# Altium schematic symbol library ESKDLib.SchLib: 109 symbols (part 1 of 2)
Pins are listed as number, name and electrical type; pins without a type are passive.

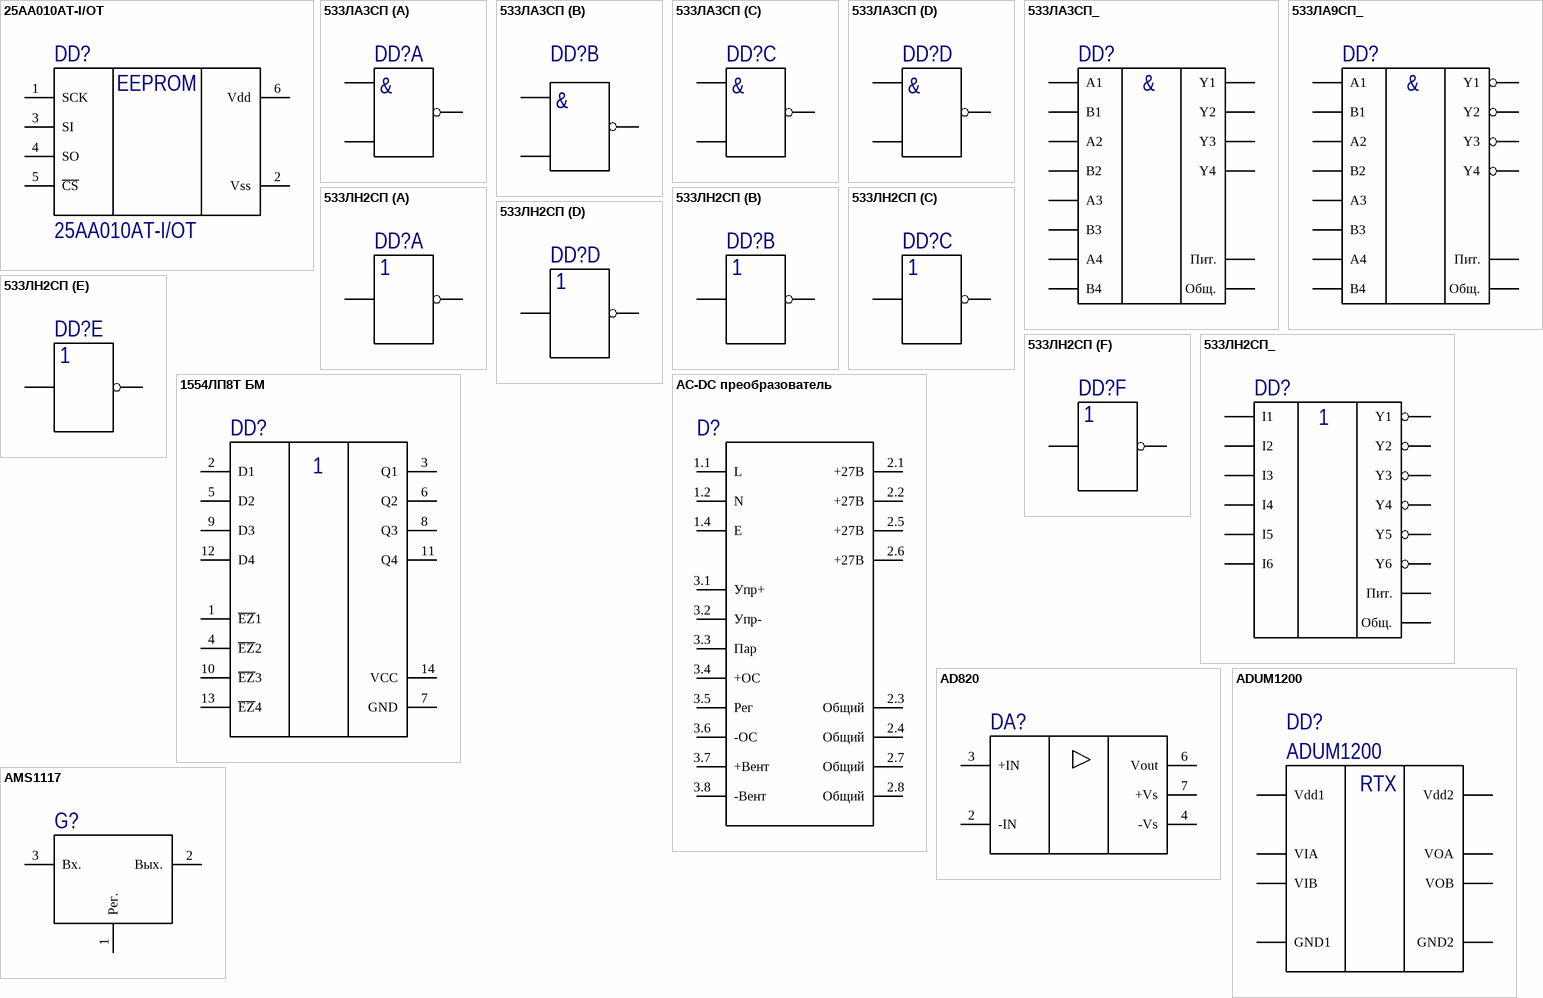
[diagram p0: symbols 25AA010AT-I/OT to AMS1117]

## 25AA010AT-I/OT
designator DD?
операционный усилитель; ValueManufacturerPartNumber: * 25AA010AT-I/OT *; ComponentKind: Standart; ComponentName: 25AA010AT-I/OT; ComponentType: *; Designator: *; Footprint: *; LibraryReference: *; Manufacturer: *; Package: *; PartNumber: *; TechSpec: *; Tolerance: *; Value: *; Voltage: *; Power: *
footprint SOT23-6_H
footprint SOT23-6_A
pins: 1 SCK, 2 Vss, 3 SI, 4 SO, 5 ~{CS}, 6 Vdd
text: EEPROM

## 533ЛА3СП
designator DD?  (value not drawn)
Четыре логических элемента  «2И-НЕ»; ComponentKind: Standart; ComponentName: *; ComponentType: *; Designator: *; Footprint: *; LibraryReference: *; Manufacturer: *; Package: *; PartNumber: *; TechSpec: *; Tolerance: *; Value: *; Voltage: *; ValueManufacturerPartNumber: =Designator+’-’+Power+’-‘+Value+’ ‘+Tolerance+’ ‘+TechSpec; Power: *
part A pins: 1 A1, 2 B1, 3 Y1, 7 Общ. hidden to Общ., 14 Пит. hidden to Пит.
part B pins: 4 A2, 5 B2, 6 Y2
part C pins: 8 Y3, 9 A3, 10 B3
part D pins: 11 Y4, 12 A4, 13 B4
part A text: &
part B text: &
part C text: &
part D text: &

## 533ЛА3СП_
designator DD?  (value not drawn)
Четыре логических элемента  «2И-НЕ»; ComponentName: 533ЛА3СП; TechSpec: бК0.347.141-01ТУ/03; ComponentKind: Standart; ComponentType: Микросхема; Designator: *; Footprint: *; LibraryReference: *; Manufacturer: *; Package: *; PartNumber: *; Tolerance: *; Value: *; Voltage: *; ValueManufacturerPartNumber: =ComponentType+’ ’+ComponentName+’ ‘+TechSpec; Power: *
footprint 401.14-5
pins: 1 A1, 2 B1, 3 Y1, 4 A2, 5 B2, 6 Y2, 7 Общ., 8 Y3, 9 A3, 10 B3, 11 Y4, 12 A4, 13 B4, 14 Пит.
text: &

## 533ЛА9СП_
designator DD?  (value not drawn)
Четыре логических элемента  «2И-НЕ» с открытым коллектором; ComponentName: 533ЛА9СП; TechSpec: бК0.347.141-01ТУ/03; ComponentKind: Standart; ComponentType: *; Designator: *; Footprint: *; LibraryReference: *; Manufacturer: *; Package: *; PartNumber: *; Tolerance: *; Value: *; Voltage: *; ValueManufacturerPartNumber: =ComponentType+’ ’+ComponentName+’ ‘+TechSpec; Power: *
pins: 1 A1, 2 B1, 3 Y1, 4 A2, 5 B2, 6 Y2, 7 Общ., 8 Y3, 9 A3, 10 B3, 11 Y4, 12 A4, 13 B4, 14 Пит.
text: &

## 533ЛН2СП
designator DD?  (value not drawn)
Шесть логических элементов «НЕ» с открытым коллекторным выходом; Component Kind: Standart; Component Name: *; Component Type: *; Designator: *; Footprint: *; Library Reference: *; Manufacturer: *; Package: *; Part Number: *; TechSpec: *; Tolerance: *; Value: *; Voltage: *; ValueManufacturerPartNumber: =Designator+’-’+Power+’-‘+Value+’ ‘+Tolerance+’ ‘+TechSpec; Power: *
part A pins: 1 I1, 2 Y1, 7 Общ. hidden to Общ., 14 Пит. hidden to Пит.
part B pins: 3 I2, 4 Y2
part C pins: 5 I3, 6 Y3
part D pins: 8 Y4, 9 I4
part E pins: 10 Y5, 11 I5
part F pins: 12 Y6, 13 I6

## 533ЛН2СП_
designator DD?  (value not drawn)
Шесть логических элементов «НЕ» с открытым коллекторным выходом; Component Name: 533ЛН2СП; TechSpec: бК0.347.141-01ТУ/03; Component Kind: Standart; Component Type: *; Designator: *; Footprint: *; Library Reference: *; Manufacturer: *; Package: *; Part Number: *; Tolerance: *; Value: *; Voltage: *; ValueManufacturerPartNumber: =ComponentType+’ ’+ComponentName+’ ‘+TechSpec; Power: *
footprint 401.14-5
pins: 1 I1, 2 Y1, 3 I2, 4 Y2, 5 I3, 6 Y3, 7 Общ., 8 Y4, 9 I4, 10 Y5, 11 I5, 12 Y6, 13 I6, 14 Пит.

## 1554ЛП8Т БМ
designator DD?  (value not drawn)
Четыре  буферных  элемента  с  тремя  состояниями  на  выходе; Component Name: 1554ЛП8Т БМ; TechSpec: АЕЯР.431200.182-09ТУ; Component Kind: Standart; Component Type: *; Designator: *; Footprint: *; Library Reference: *; Manufacturer: *; Package: *; Part Number: *; Tolerance: *; Value: *; Voltage: *; ValueManufacturerPartNumber: =ComponentType+’ ’+ComponentName+’ ‘+TechSpec; Power: *
footprint 401.14-5
footprint DIP14
footprint SO-14
pins: 1 ~{EZ}1, 2 D1, 3 Q1, 4 ~{EZ}2, 5 D2, 6 Q2, 7 GND, 8 Q3, 9 D3, 10 ~{EZ}3, 11 Q4, 12 D4, 13 ~{EZ}4, 14 VCC

## AC-DC преобразователь
designator D?  (value not drawn)
AC-DC преобразователь; Power: 800Вт; Component Kind: Standart; Component Name: *; Component Type: *; Designator: *; Footprint: *; Library Reference: *; Manufacturer: *; Package: *; Part Number: *; TechSpec: *; Tolerance: *; Value: *; Voltage: *; ValueManufacturerPartNumber: =Designator+’-’+Power+’-‘+Value+’ ‘+Tolerance+’ ‘+TechSpec
pins: 1.1 L, 1.2 N, 1.4 E, 2.1 +27В, 2.2 +27В, 2.3 Общий, 2.4 Общий, 2.5 +27В, 2.6 +27В, 2.7 Общий, 2.8 Общий, 3.1 Упр+, 3.2 Упр-, 3.3 Пар, 3.4 +ОС, 3.5 Рег, 3.6 -ОС, 3.7 +Вент, 3.8 -Вент

## AD820
designator DA?  (value not drawn)
операционный усилитель; ComponentKind: Standart; ComponentName: *; ComponentType: *; Designator: *; Footprint: *; LibraryReference: *; Manufacturer: *; Package: *; PartNumber: *; TechSpec: *; Tolerance: *; Value: *; Voltage: *; ValueManufacturerPartNumber: =Designator+’-’+Power+’-‘+Value+’ ‘+Tolerance+’ ‘+TechSpec; Power: *
pins: 2 -IN, 3 +IN, 4 -Vs, 6 Vout, 7 +Vs

## ADUM1200
designator DD?
Цифровой изолятор; ComponentKind: Standart; ComponentName: ADUM1200; ComponentType: *; Designator: *; Footprint: *; LibraryReference: *; Manufacturer: *; Package: *; PartNumber: *; TechSpec: *; Tolerance: *; Value: *; Voltage: *; ValueManufacturerPartNumber: =Designator+’-’+Power+’-‘+Value+’ ‘+Tolerance+’ ‘+TechSpec; Power: *
footprint SO8_A
footprint SO8_H
pins: 1 Vdd1, 2 VIA, 3 VIB, 4 GND1, 5 GND2, 6 VOB, 7 VOA, 8 Vdd2
text: RTX

## AMS1117
designator G?
Линейный стабилизатор напряжения; ValueManufacturerPartNumber: * * *; ComponentKind: Standart; ComponentName: *; ComponentType: *; Designator: *; Footprint: *; LibraryReference: *; Manufacturer: *; Package: *; PartNumber: *; TechSpec: *; Tolerance: *; Value: *; Voltage: *; Power: *
footprint SOT-223
pins: 1 Рег., 2 Вых., 3 Вх.

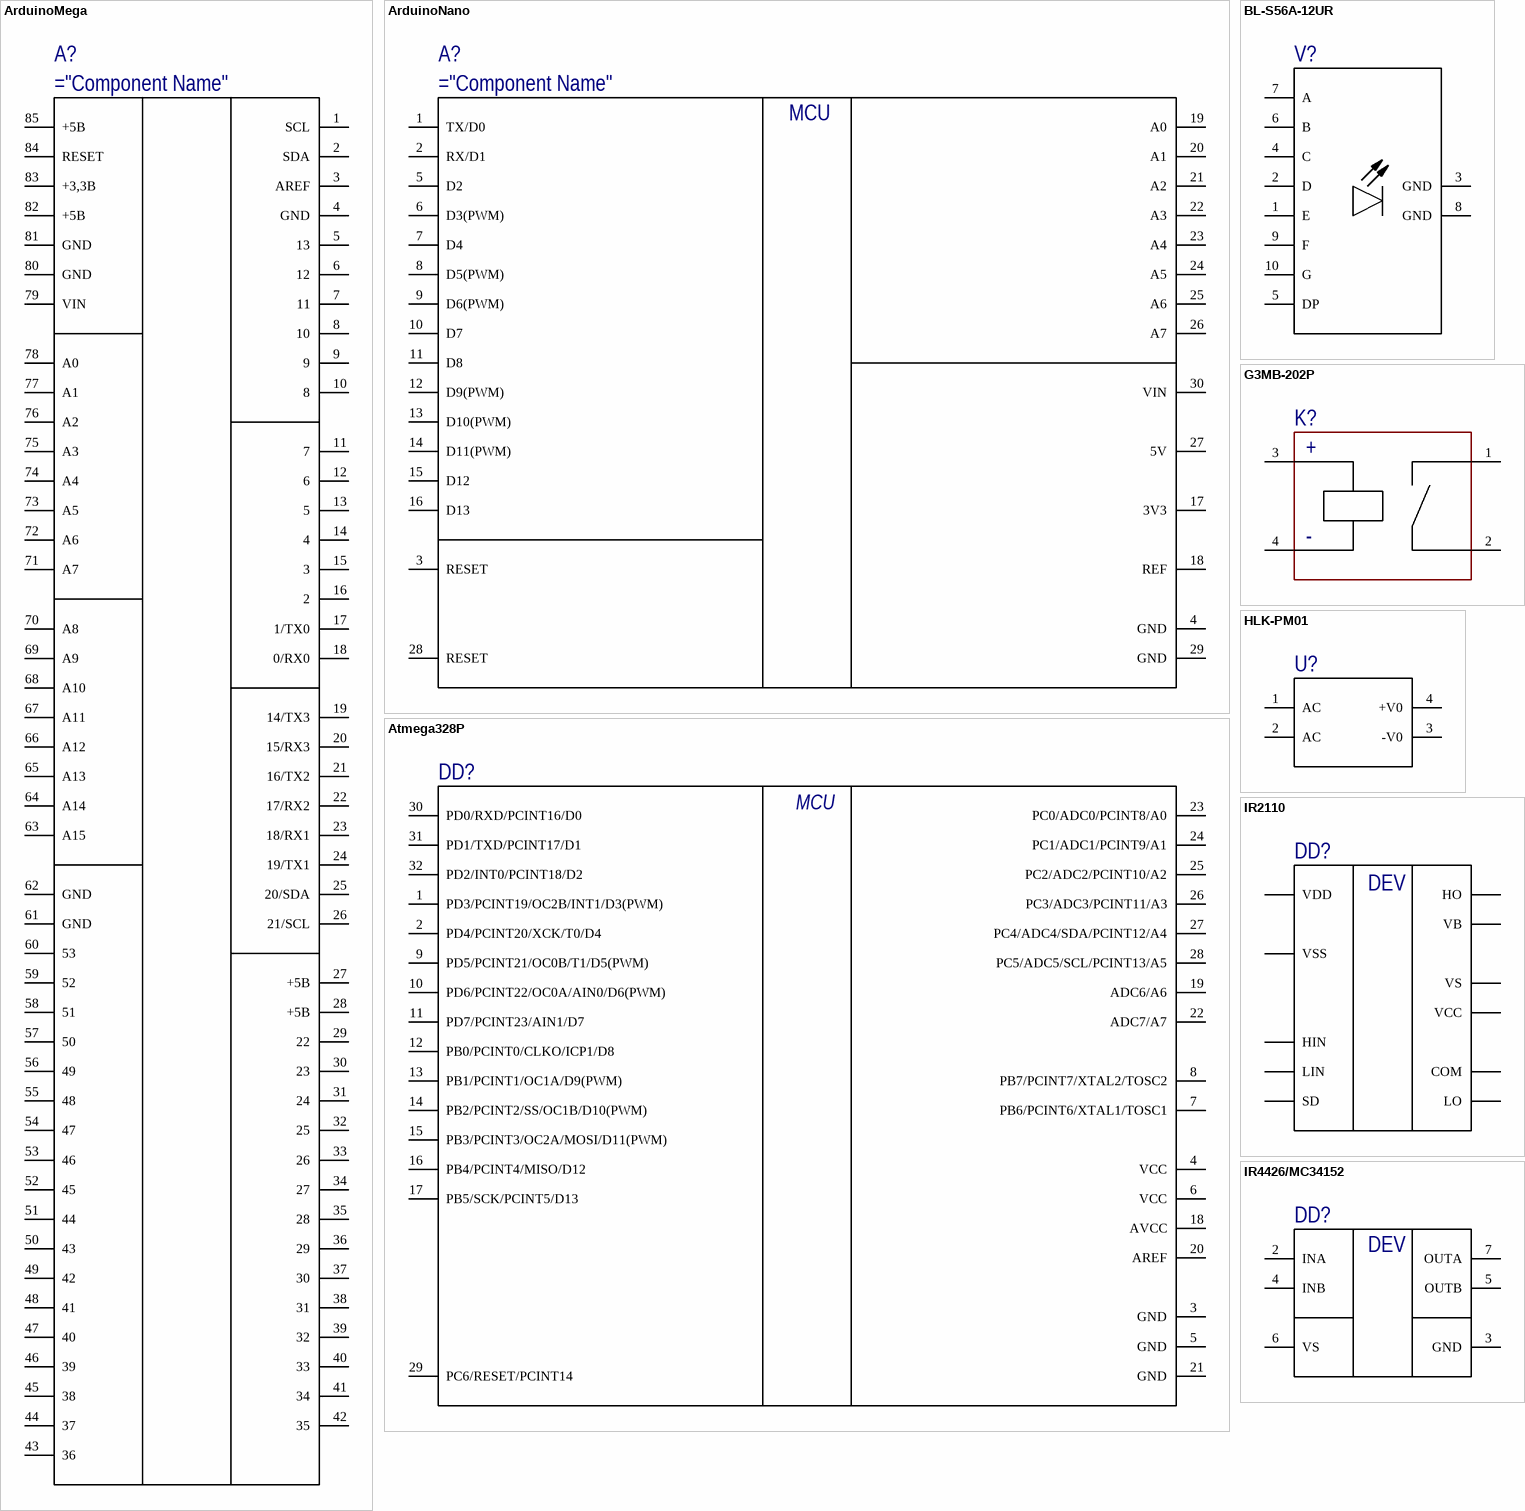
[diagram p1: symbols ArduinoMega to IR4426/MC34152]

## ArduinoMega
designator A?
отладочная плата ArduinoMega; ComponentKind: Standart; ComponentName: ArduinoMega; ComponentType: Отладочная плата; Designator: *; Footprint: *; LibraryReference: *; Manufacturer: *; Package: *; PartNumber: *; Tolerance: *; Value: *; Voltage: *; ValueManufacturerPartNumber: Отладочная плата ArduinoMega; Power: *
footprint ArduinoMegaBack
footprint ArduinoMegaFace
pins: 1 SCL, 2 SDA, 3 AREF, 4 GND, 5 13, 6 12, 7 11, 8 10, 9, 10 8, 11 7, 12 6, 13 5, 14 4, 15 3, 16 2, 17 1/TX0, 18 0/RX0, 19 14/TX3, 20 15/RX3, 21 16/TX2, 22 17/RX2, 23 18/RX1, 24 19/TX1, 25 20/SDA, 26 21/SCL, 27 +5В, 28 +5В, 29 22, 30 23, 31 24, 32 25, 33 26, 34 27, 35 28, 36 29, 37 30, 38 31, 39 32, 40 33, 41 34, 42 35, 43 36, 44 37, 45 38, 46 39, 47 40, 48 41, 49 42, 50 43, 51 44, 52 45, 53 46, 54 47, 55 48, 56 49, 57 50, 58 51, 59 52, 60 53, 61 GND, 62 GND, 63 A15, 64 A14, 65 A13, 66 A12, 67 A11, 68 A10, 69 A9, 70 A8, 71 A7, 72 A6, 73 A5, 74 A4, 75 A3, 76 A2, 77 A1, 78 A0, 79 VIN, 80 GND, 81 GND, 82 +5В, 83 +3,3В, 84 RESET, 85 +5В

## ArduinoNano
designator A?
отладочная плата ArduinoNano; ComponentKind: Standart; ComponentName: ArduinoNano; ComponentType: Отладочная плата; Designator: *; Footprint: *; LibraryReference: *; Manufacturer: *; Package: *; PartNumber: *; Tolerance: *; Value: *; Voltage: *; ValueManufacturerPartNumber: Отладочная плата ArduinoNano; Power: *
footprint ARDUINONANO
pins: 1 TX/D0, 2 RX/D1, 3 RESET, 4 GND, 5 D2, 6 D3(PWM), 7 D4, 8 D5(PWM), 9 D6(PWM), 10 D7, 11 D8, 12 D9(PWM), 13 D10(PWM), 14 D11(PWM), 15 D12, 16 D13, 17 3V3, 18 REF, 19 A0, 20 A1, 21 A2, 22 A3, 23 A4, 24 A5, 25 A6, 26 A7, 27 5V, 28 RESET, 29 GND, 30 VIN
text: MCU

## Atmega328P
designator DD?  (value not drawn)
микроконтроллер; ComponentKind: Standart; ComponentName: Atmega328P; ComponentType: микроконтроллер; Designator: *; Footprint: *; LibraryReference: *; Manufacturer: *; Package: *; PartNumber: *; Tolerance: *; Value: *; Voltage: *; ValueManufacturerPartNumber: =ComponentType+’ ’+ComponentName+’ ‘+TechSpec; Power: *
footprint TQFP32
pins: 1 PD3/PCINT19/OC2B/INT1/D3(PWM), 2 PD4/PCINT20/XCK/T0/D4, 3 GND, 4 VCC, 5 GND, 6 VCC, 7 PB6/PCINT6/XTAL1/TOSC1, 8 PB7/PCINT7/XTAL2/TOSC2, 9 PD5/PCINT21/OC0B/T1/D5(PWM), 10 PD6/PCINT22/OC0A/AIN0/D6(PWM), 11 PD7/PCINT23/AIN1/D7, 12 PB0/PCINT0/CLKO/ICP1/D8, 13 PB1/PCINT1/OC1A/D9(PWM), 14 PB2/PCINT2/SS/OC1B/D10(PWM), 15 PB3/PCINT3/OC2A/MOSI/D11(PWM), 16 PB4/PCINT4/MISO/D12, 17 PB5/SCK/PCINT5/D13, 18 AVCC, 19 ADC6/A6, 20 AREF, 21 GND, 22 ADC7/A7, 23 PC0/ADC0/PCINT8/A0, 24 PC1/ADC1/PCINT9/A1, 25 PC2/ADC2/PCINT10/A2, 26 PC3/ADC3/PCINT11/A3, 27 PC4/ADC4/SDA/PCINT12/A4, 28 PC5/ADC5/SCL/PCINT13/A5, 29 PC6/RESET/PCINT14, 30 PD0/RXD/PCINT16/D0, 31 PD1/TXD/PCINT17/D1, 32 PD2/INT0/PCINT18/D2
text: MCU

## BL-S56A-12UR
designator V?  (value not drawn)
Семисегментный индикатор; Component Kind: Standart; Component Name: *; Component Type: *; Designator: *; Footprint: *; Library Reference: *; Manufacturer: *; Package: *; Part Number: *; TechSpec: *; Tolerance: *; Value: *; Voltage: *; ValueManufacturerPartNumber: =Designator+’-’+Power+’-‘+Value+’ ‘+Tolerance+’ ‘+TechSpec; Power: *
footprint 7seg
pins: 1 E, 2 D, 3 GND, 4 C, 5 DP, 6 B, 7 A, 8 GND, 9 F, 10 G

## G3MB-202P
designator K?
G3MB-202P; ValueManufacturerPartNumber: Реле; ComponentKind: Standart; ComponentType: Реле; Designator: *; Footprint: *; Library Reference: *; Manufacturer: *; Package: *; Part Number: *; Tolerance: *; Value: *; Voltage: *
footprint G3MB-202P_OMRON
pins: 1, 2, 3 3+, 4 4-
text: +; -

## HLK-PM01
designator U?
AC-DC преобразователь; ValueManufacturerPartNumber: Модуль питания HLK-PM01; ComponentName: HLK-PM01; Power: 3Вт; ComponentKind: Standart; ComponentType: Модуль питания; Designator: *; Footprint: *; Library Reference: *; Manufacturer: *; Package: *; Part Number: *; Tolerance: *; Value: *; Voltage: *
pins: 1 AC, 2 AC, 3 -V0, 4 +V0

## IR2110
designator DD?  (value not drawn)
драйвер IGBT и MOSFET транзисторов; Component Kind: Standart; Component Name: *; Component Type: *; Designator: *; Footprint: *; Library Reference: *; Manufacturer: *; Package: *; Part Number: *; TechSpec: *; Tolerance: *; Value: *; Voltage: *; ValueManufacturerPartNumber: =Designator+’-’+Power+’-‘+Value+’ ‘+Tolerance+’ ‘+TechSpec; Power: *
footprint DIP14
pins: 1 LO, 2 COM, 3 VCC, 5 VS, 6 VB, 7 HO, 8 VDD, 10 HIN, 11 SD, 12 LIN, 13 VSS
text: DEV

## IR4426/MC34152
designator DD?  (value not drawn)
Два драйвера нижнего плеча; ComponentKind: Standart; ComponentName: IR4426/MC34152; ComponentType: Драйвер MOSFET; Designator: *; Footprint: *; LibraryReference: *; Manufacturer: *; Package: *; PartNumber: *; Tolerance: *; Value: *; Voltage: *; ValueManufacturerPartNumber: =ComponentType+’ ’+ComponentName+’ ‘+TechSpec; Power: *
footprint SO8_H
pins: 2 INA, 3 GND, 4 INB, 5 OUTB, 6 VS, 7 OUTA
text: DEV

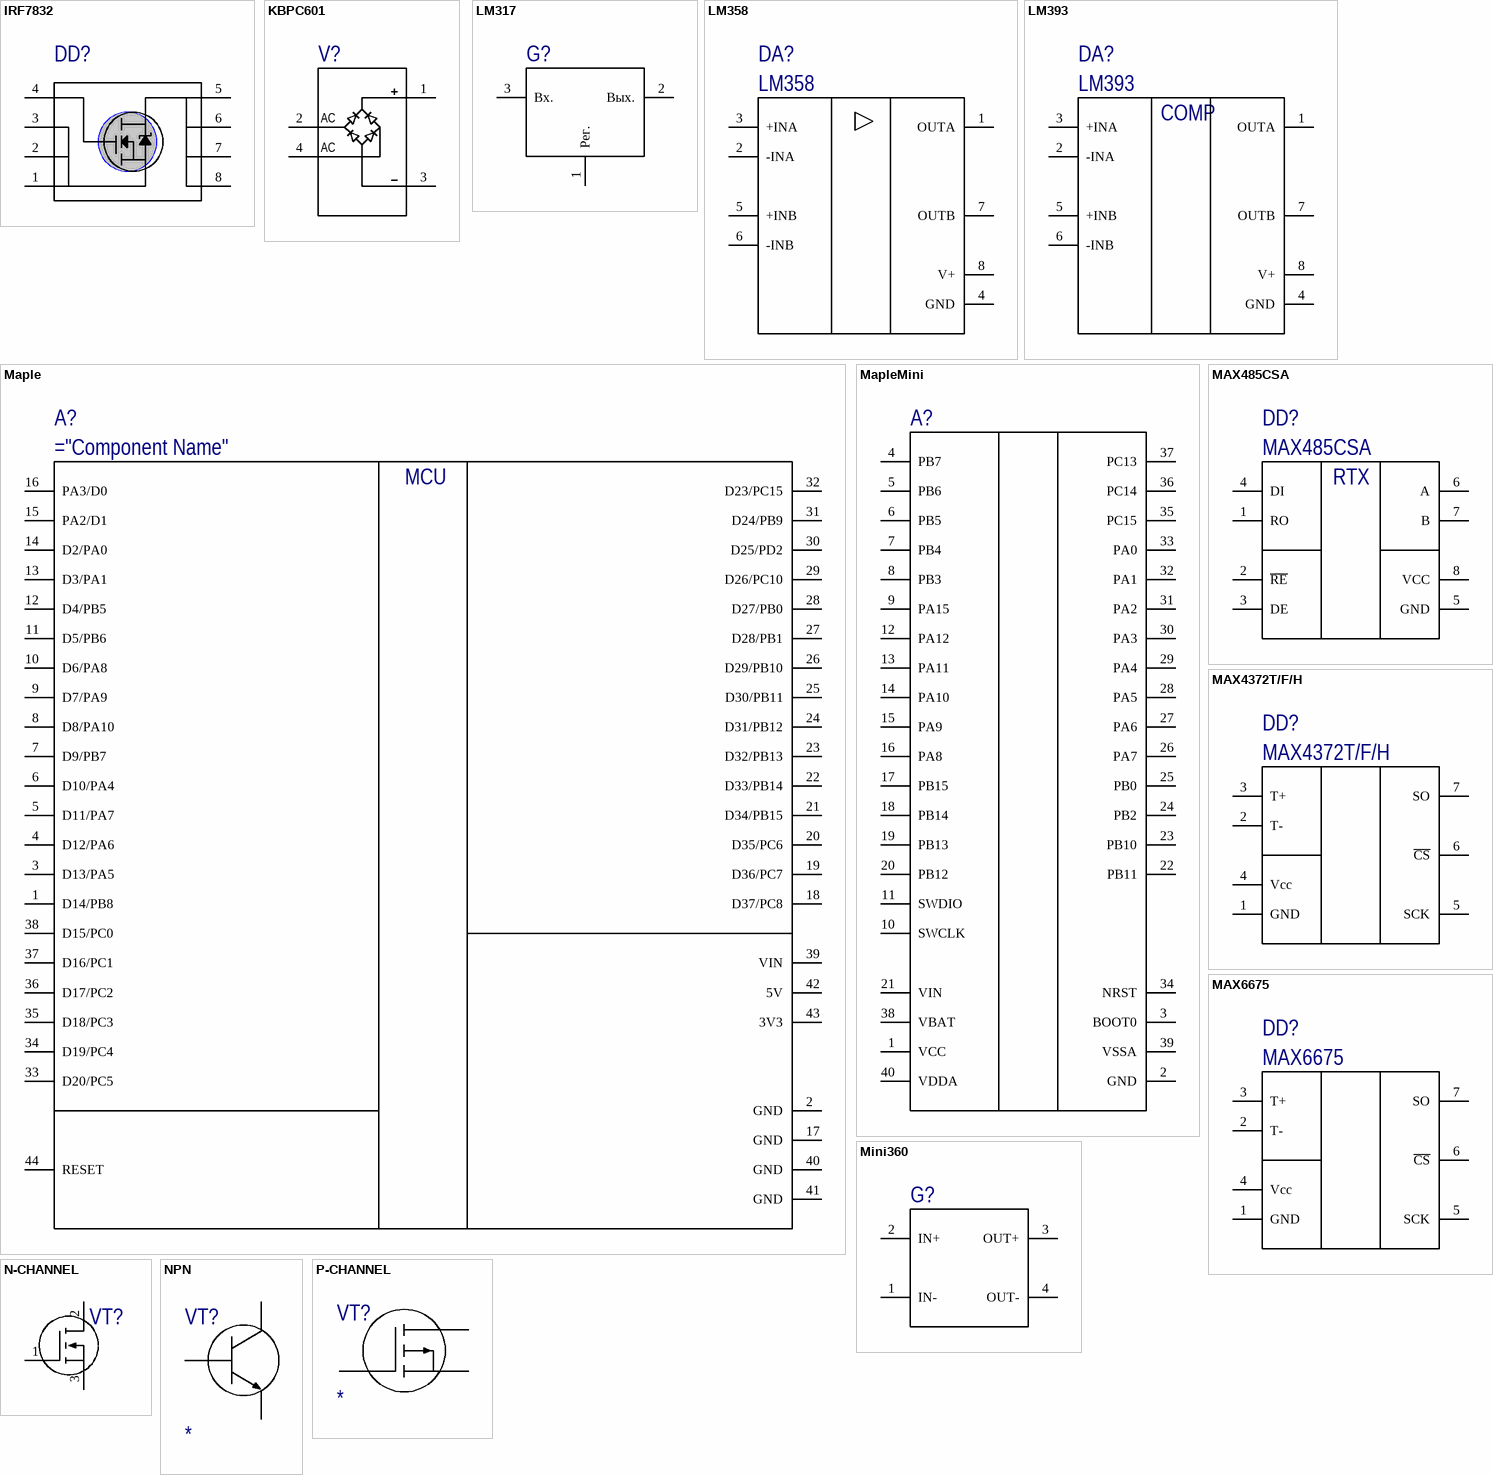
[diagram p2: symbols IRF7832 to P-CHANNEL]

## IRF7832
designator DD?  (value not drawn)
транзистор MOSFET N-канальный; ComponentKind: Standart; ComponentName: IRF7832; ComponentType: транзистор MOSFET; Designator: *; Footprint: *; LibraryReference: *; Manufacturer: *; Package: *; PartNumber: *; Tolerance: *; Value: *; Voltage: *; ValueManufacturerPartNumber: =ComponentType+’ ’+ComponentName+’ ‘+TechSpec; Power: *
footprint SO8_H
pins: 1, 2, 3, 4, 5, 6, 7, 8

## KBPC601
designator V?  (value not drawn)
Диодный мост; ValueManufacturerPartNumber: диод * *; ComponentKind: Standart; ComponentName: *; ComponentType: диод; Designator: *; Footprint: *; Library Reference: *; Manufacturer: *; Package: *; Part Number: *; TechSpec: *; Tolerance: *; Value: *; Voltage: *; Power: *
footprint BR-6
pins: 1 +, 2 L, 3 -, 4 N
text: AC

## LM317
designator G?
Линейный стабилизатор напряжения; ValueManufacturerPartNumber: * * *; ComponentKind: Standart; ComponentName: *; ComponentType: *; Designator: *; Footprint: *; LibraryReference: *; Manufacturer: *; Package: *; PartNumber: *; TechSpec: *; Tolerance: *; Value: *; Voltage: *; Power: *
footprint TO-220
pins: 1 Рег., 2 Вых., 3 Вх.

## LM358
designator DA?
операционный усилитель сдвоенный; ComponentKind: Standart; ComponentName: LM358; ComponentType: компаратор; Designator: *; Footprint: *; LibraryReference: *; Manufacturer: *; Package: *; PartNumber: *; TechSpec: *; Tolerance: *; Value: *; Voltage: *; ValueManufacturerPartNumber: =Designator+’-’+Power+’-‘+Value+’ ‘+Tolerance+’ ‘+TechSpec; Power: *
footprint SO8_A
footprint SO8_H
pins: 1 OUTA, 2 -INA, 3 +INA, 4 GND, 5 +INB, 6 -INB, 7 OUTB, 8 V+

## LM393
designator DA?
компаратор сдвоенный; ComponentKind: Standart; ComponentName: LM393; ComponentType: компаратор; Designator: *; Footprint: *; LibraryReference: *; Manufacturer: *; Package: *; PartNumber: *; TechSpec: *; Tolerance: *; Value: *; Voltage: *; ValueManufacturerPartNumber: =Designator+’-’+Power+’-‘+Value+’ ‘+Tolerance+’ ‘+TechSpec; Power: *
footprint SO8_A
footprint SO8_H
pins: 1 OUTA, 2 -INA, 3 +INA, 4 GND, 5 +INB, 6 -INB, 7 OUTB, 8 V+
text: COMP

## Maple
designator A?
отладочная плата ArduinoNano; ValueManufacturerPartNumber: Отладочная плата Maple; ComponentName: Maple; ComponentKind: Standart; ComponentType: Отладочная плата; Designator: *; Footprint: *; LibraryReference: *; Manufacturer: *; Package: *; PartNumber: *; Tolerance: *; Value: *; Voltage: *; Power: *
footprint IteadMaple
pins: 1 D14/PB8, 2 GND, 3 D13/PA5, 4 D12/PA6, 5 D11/PA7, 6 D10/PA4, 7 D9/PB7, 8 D8/PA10, 9 D7/PA9, 10 D6/PA8, 11 D5/PB6, 12 D4/PB5, 13 D3/PA1, 14 D2/PA0, 15 PA2/D1, 16 PA3/D0, 17 GND, 18 D37/PC8, 19 D36/PC7, 20 D35/PC6, 21 D34/PB15, 22 D33/PB14, 23 D32/PB13, 24 D31/PB12, 25 D30/PB11, 26 D29/PB10, 27 D28/PB1, 28 D27/PB0, 29 D26/PC10, 30 D25/PD2, 31 D24/PB9, 32 D23/PC15, 33 D20/PC5, 34 D19/PC4, 35 D18/PC3, 36 D17/PC2, 37 D16/PC1, 38 D15/PC0, 39 VIN, 40 GND, 41 GND, 42 5V, 43 3V3, 44 RESET
text: MCU

## MapleMini
designator A?  (value not drawn)
отладочная плата MapleMini; ComponentKind: Standart; ComponentName: MapleMini; ComponentType: Отладочная плата; Designator: *; Footprint: *; LibraryReference: *; Manufacturer: *; Package: *; PartNumber: *; Tolerance: *; Value: *; Voltage: *; ValueManufacturerPartNumber: =ComponentType+’ ’+ComponentName+’ ‘+TechSpec; Power: *
footprint MapleMini
pins: 1 VCC, 2 GND, 3 BOOT0, 4 PB7, 5 PB6, 6 PB5, 7 PB4, 8 PB3, 9 PA15, 10 SWCLK, 11 SWDIO, 12 PA12, 13 PA11, 14 PA10, 15 PA9, 16 PA8, 17 PB15, 18 PB14, 19 PB13, 20 PB12, 21 VIN, 22 PB11, 23 PB10, 24 PB2, 25 PB0, 26 PA7, 27 PA6, 28 PA5, 29 PA4, 30 PA3, 31 PA2, 32 PA1, 33 PA0, 34 NRST, 35 PC15, 36 PC14, 37 PC13, 38 VBAT, 39 VSSA, 40 VDDA

## MAX485CSA
designator DD?
преобразователь UART-RS485; ComponentKind: Standart; ComponentName: MAX485CSA; ComponentType: *; Designator: *; Footprint: *; LibraryReference: *; Manufacturer: *; Package: *; PartNumber: *; TechSpec: *; Tolerance: *; Value: *; Voltage: *; ValueManufacturerPartNumber: =Designator+’-’+Power+’-‘+Value+’ ‘+Tolerance+’ ‘+TechSpec; Power: *
footprint SO8_A
footprint SO8_H
pins: 1 RO, 2 ~{RE}, 3 DE, 4 DI, 5 GND, 6 A, 7 B, 8 VCC
text: RTX

## MAX4372T/F/H
designator DD?
преобразователь сигнала термопары; ComponentKind: Standart; ComponentName: MAX4372T/F/H; ComponentType: *; Designator: *; Footprint: *; LibraryReference: *; Manufacturer: *; Package: *; PartNumber: *; TechSpec: *; Tolerance: *; Value: *; Voltage: *; ValueManufacturerPartNumber: =Designator+’-’+Power+’-‘+Value+’ ‘+Tolerance+’ ‘+TechSpec; Power: *
footprint SOT23-5_A
footprint SOT23-5_H
pins: 1 GND, 2 T-, 3 T+, 4 Vcc, 5 SCK, 6 ~{CS}, 7 SO

## MAX6675
designator DD?
преобразователь сигнала термопары; ComponentKind: Standart; ComponentName: MAX6675; ComponentType: *; Designator: *; Footprint: *; LibraryReference: *; Manufacturer: *; Package: *; PartNumber: *; TechSpec: *; Tolerance: *; Value: *; Voltage: *; ValueManufacturerPartNumber: =Designator+’-’+Power+’-‘+Value+’ ‘+Tolerance+’ ‘+TechSpec; Power: *
footprint SO8_A
footprint SO8_H
pins: 1 GND, 2 T-, 3 T+, 4 Vcc, 5 SCK, 6 ~{CS}, 7 SO

## Mini360
designator G?
DC-DC конвертор; ComponentName: Mini360; ComponentKind: Standart; ComponentType: Модуль питания; Designator: *; Footprint: *; Library Reference: *; Manufacturer: *; Package: *; Part Number: *; TechSpec: *; Tolerance: *; Value: *; Voltage: *; ValueManufacturerPartNumber: =ComponentType+' '+ComponentName+" "+TechSpec
footprint Mini360
pins: 1 IN-, 2 IN+, 3 OUT+, 4 OUT-

## N-CHANNEL
designator VT?  (value not drawn)
n-канальный полевой транзистор; ValueManufacturerPartNumber: Транзистор * *; ComponentKind: Standart; ComponentName: *; ComponentType: Транзистор; Designator: *; Footprint: *; Library Reference: *; Manufacturer: *; Package: *; Part Number: *; TechSpec: *; Tolerance: *; Value: *; Voltage: *
footprint TO-247AC
footprint КТ-43А-1.01
footprint КТ-43А-1.01-R
footprint TO-220
pins: 1 З, 2 С, 3 И

## NPN
designator VT?
n-p-n биполярный транзистор; ValueManufacturerPartNumber: Транзистор * *; ComponentKind: Standart; ComponentName: *; ComponentType: Транзистор; Designator: *; Footprint: *; Library Reference: *; Manufacturer: *; Package: *; Part Number: *; TechSpec: *; Tolerance: *; Value: *; Voltage: *
pins: 1 Б, 2 Э, 3 К

## P-CHANNEL
designator VT?
p-канальный полевой транзистор; ValueManufacturerPartNumber: Транзистор * *; ComponentKind: Standart; ComponentName: *; ComponentType: Транзистор; Designator: *; Footprint: *; Library Reference: *; Manufacturer: *; Package: *; Part Number: *; TechSpec: *; Tolerance: *; Value: *; Voltage: *
pins: 1 З, 2 И, 3 С

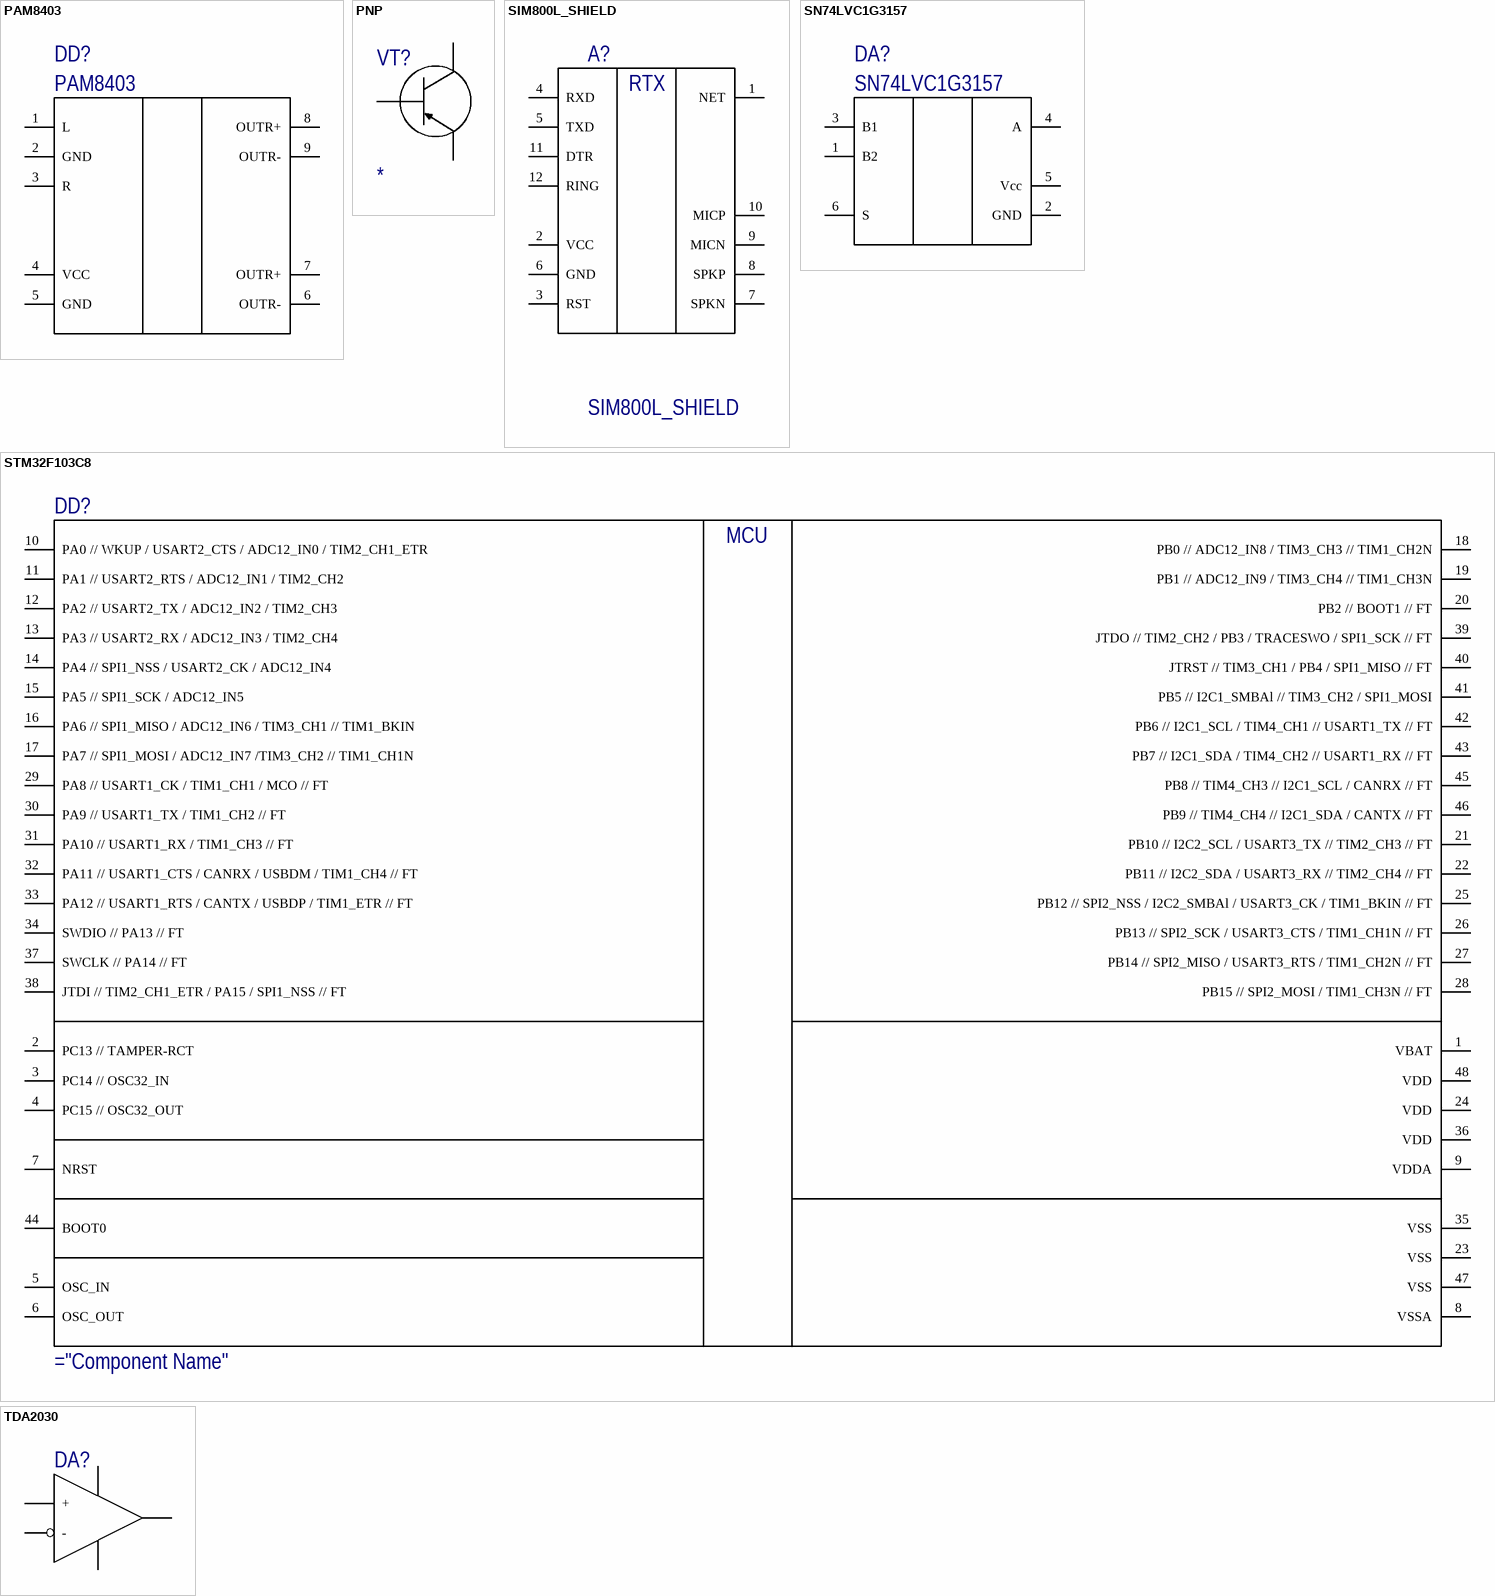
[diagram p3: symbols PAM8403 to TDA2030]

## PAM8403
designator DD?
усилитель 2-х канальный класса D; ComponentKind: Standart; ComponentName: PAM8403; ComponentType: усилитель; Designator: *; Footprint: *; LibraryReference: *; Manufacturer: *; Package: *; PartNumber: *; TechSpec: *; Tolerance: *; Value: *; Voltage: *; ValueManufacturerPartNumber: =Designator+’-’+Power+’-‘+Value+’ ‘+Tolerance+’ ‘+TechSpec; Power: *
pins: 1 L, 2 GND, 3 R, 4 VCC, 5 GND, 6 OUTR-, 7 OUTR+, 8 OUTR+, 9 OUTR-

## PNP
designator VT?
p-n-p биполярный транзистор; ValueManufacturerPartNumber: Транзистор * *; ComponentKind: Standart; ComponentName: *; ComponentType: Транзистор; Designator: *; Footprint: *; Library Reference: *; Manufacturer: *; Package: *; Part Number: *; TechSpec: *; Tolerance: *; Value: *; Voltage: *
pins: 1 Б, 2 Э, 3 К

## SIM800L_SHIELD
designator A?
микроконтроллер; ValueManufacturerPartNumber: GSM модуль SIM800L_SHIELD; ComponentKind: Standart; ComponentName: SIM800L_SHIELD; ComponentType: GSM модуль; Designator: *; Footprint: *; LibraryReference: *; Manufacturer: *; Package: *; PartNumber: *; Tolerance: *; Value: *; Voltage: *; Power: *
footprint SIM800L_SHIELD
pins: 1 NET, 2 VCC, 3 RST, 4 RXD, 5 TXD, 6 GND, 7 SPKN, 8 SPKP, 9 MICN, 10 MICP, 11 DTR, 12 RING
text: RTX

## SN74LVC1G3157
designator DA?
аналоговый коммутатор; ComponentName: SN74LVC1G3157; ComponentType: *; Designator: *; Footprint: *; LibraryReference: *; Manufacturer: *; Package: *; PartNumber: *; TechSpec: *; Tolerance: *; Value: *; Voltage: *; ValueManufacturerPartNumber: =Designator+’-’+Power+’-‘+Value+’ ‘+Tolerance+’ ‘+TechSpec; Power: *
footprint SOT23-6_A
footprint SOT23-6_H
pins: 1 B2, 2 GND, 3 B1, 4 A, 5 Vcc, 6 S

## STM32F103C8
designator DD?
микроконтроллер; ValueManufacturerPartNumber: Микроконтроллер STM32F103Cx; ComponentName: STM32F103Cx; ComponentKind: Standart; ComponentType: Микроконтроллер; Designator: *; Footprint: *; LibraryReference: *; Manufacturer: *; Package: *; PartNumber: *; Tolerance: *; Value: *; Voltage: *; Power: *
footprint LQFP48 (QFP, 48-Leads, Body 7x7mm, Pitch 0.5mm, IPC Low Density)
pins: 1 VBAT, 2 PC13 // TAMPER-RCT, 3 PC14 // OSC32_IN, 4 PC15 // OSC32_OUT, 5 OSC_IN, 6 OSC_OUT, 7 NRST, 8 VSSA, 9 VDDA, 10 PA0 // WKUP / USART2_CTS / ADC12_IN0 / TIM2_CH1_ETR, 11 PA1 // USART2_RTS / ADC12_IN1 / TIM2_CH2, 12 PA2 // USART2_TX / ADC12_IN2 / TIM2_CH3, 13 PA3 // USART2_RX / ADC12_IN3 / TIM2_CH4, 14 PA4 // SPI1_NSS / USART2_CK / ADC12_IN4, 15 PA5 // SPI1_SCK / ADC12_IN5, 16 PA6 // SPI1_MISO / ADC12_IN6 / TIM3_CH1 // TIM1_BKIN , 17 PA7 // SPI1_MOSI / ADC12_IN7 /TIM3_CH2 // TIM1_CH1N, 18 PB0 // ADC12_IN8 / TIM3_CH3 // TIM1_CH2N, 19 PB1 // ADC12_IN9 / TIM3_CH4 // TIM1_CH3N, 20 PB2 // BOOT1 // FT, 21 PB10 // I2C2_SCL / USART3_TX // TIM2_CH3 // FT, 22 PB11 // I2C2_SDA / USART3_RX // TIM2_CH4 // FT, 23 VSS, 24 VDD, 25 PB12 // SPI2_NSS / I2C2_SMBAl / USART3_CK / TIM1_BKIN // FT, 26 PB13 // SPI2_SCK / USART3_CTS / TIM1_CH1N // FT, 27 PB14 // SPI2_MISO / USART3_RTS / TIM1_CH2N // FT, 28 PB15 // SPI2_MOSI / TIM1_CH3N // FT, 29 PA8 // USART1_CK / TIM1_CH1 / MCO // FT, 30 PA9 // USART1_TX / TIM1_CH2 // FT, 31 PA10 // USART1_RX / TIM1_CH3 // FT, 32 PA11 // USART1_CTS / CANRX / USBDM / TIM1_CH4 // FT, 33 PA12 // USART1_RTS / CANTX / USBDP / TIM1_ETR // FT, 34 SWDIO // PA13 // FT, 35 VSS, 36 VDD, 37 SWCLK // PA14 // FT, 38 JTDI // TIM2_CH1_ETR / PA15 / SPI1_NSS // FT, 39 JTDO // TIM2_CH2 / PB3 / TRACESWO / SPI1_SCK // FT, 40 JTRST // TIM3_CH1 / PB4 / SPI1_MISO // FT, 41 PB5 // I2C1_SMBAl // TIM3_CH2 / SPI1_MOSI, 42 PB6 // I2C1_SCL / TIM4_CH1 // USART1_TX // FT, 43 PB7 // I2C1_SDA / TIM4_CH2 // USART1_RX // FT, 44 BOOT0, 45 PB8 // TIM4_CH3 // I2C1_SCL / CANRX // FT, 46 PB9 // TIM4_CH4 // I2C1_SDA / CANTX // FT, 47 VSS, 48 VDD
text: MCU

## TDA2030
designator DA?  (value not drawn)
УНЧ; ComponentKind: Standart; ComponentName: *; ComponentType: *; Designator: *; Footprint: *; LibraryReference: *; Manufacturer: *; Package: *; PartNumber: *; TechSpec: *; Tolerance: *; Value: *; Voltage: *; ValueManufacturerPartNumber: =Designator+’-’+Power+’-‘+Value+’ ‘+Tolerance+’ ‘+TechSpec; Power: *
footprint pentawatt vertical
pins: 1 +, 2 -, 3 -Vs, 4 OUT, 5 +Vs

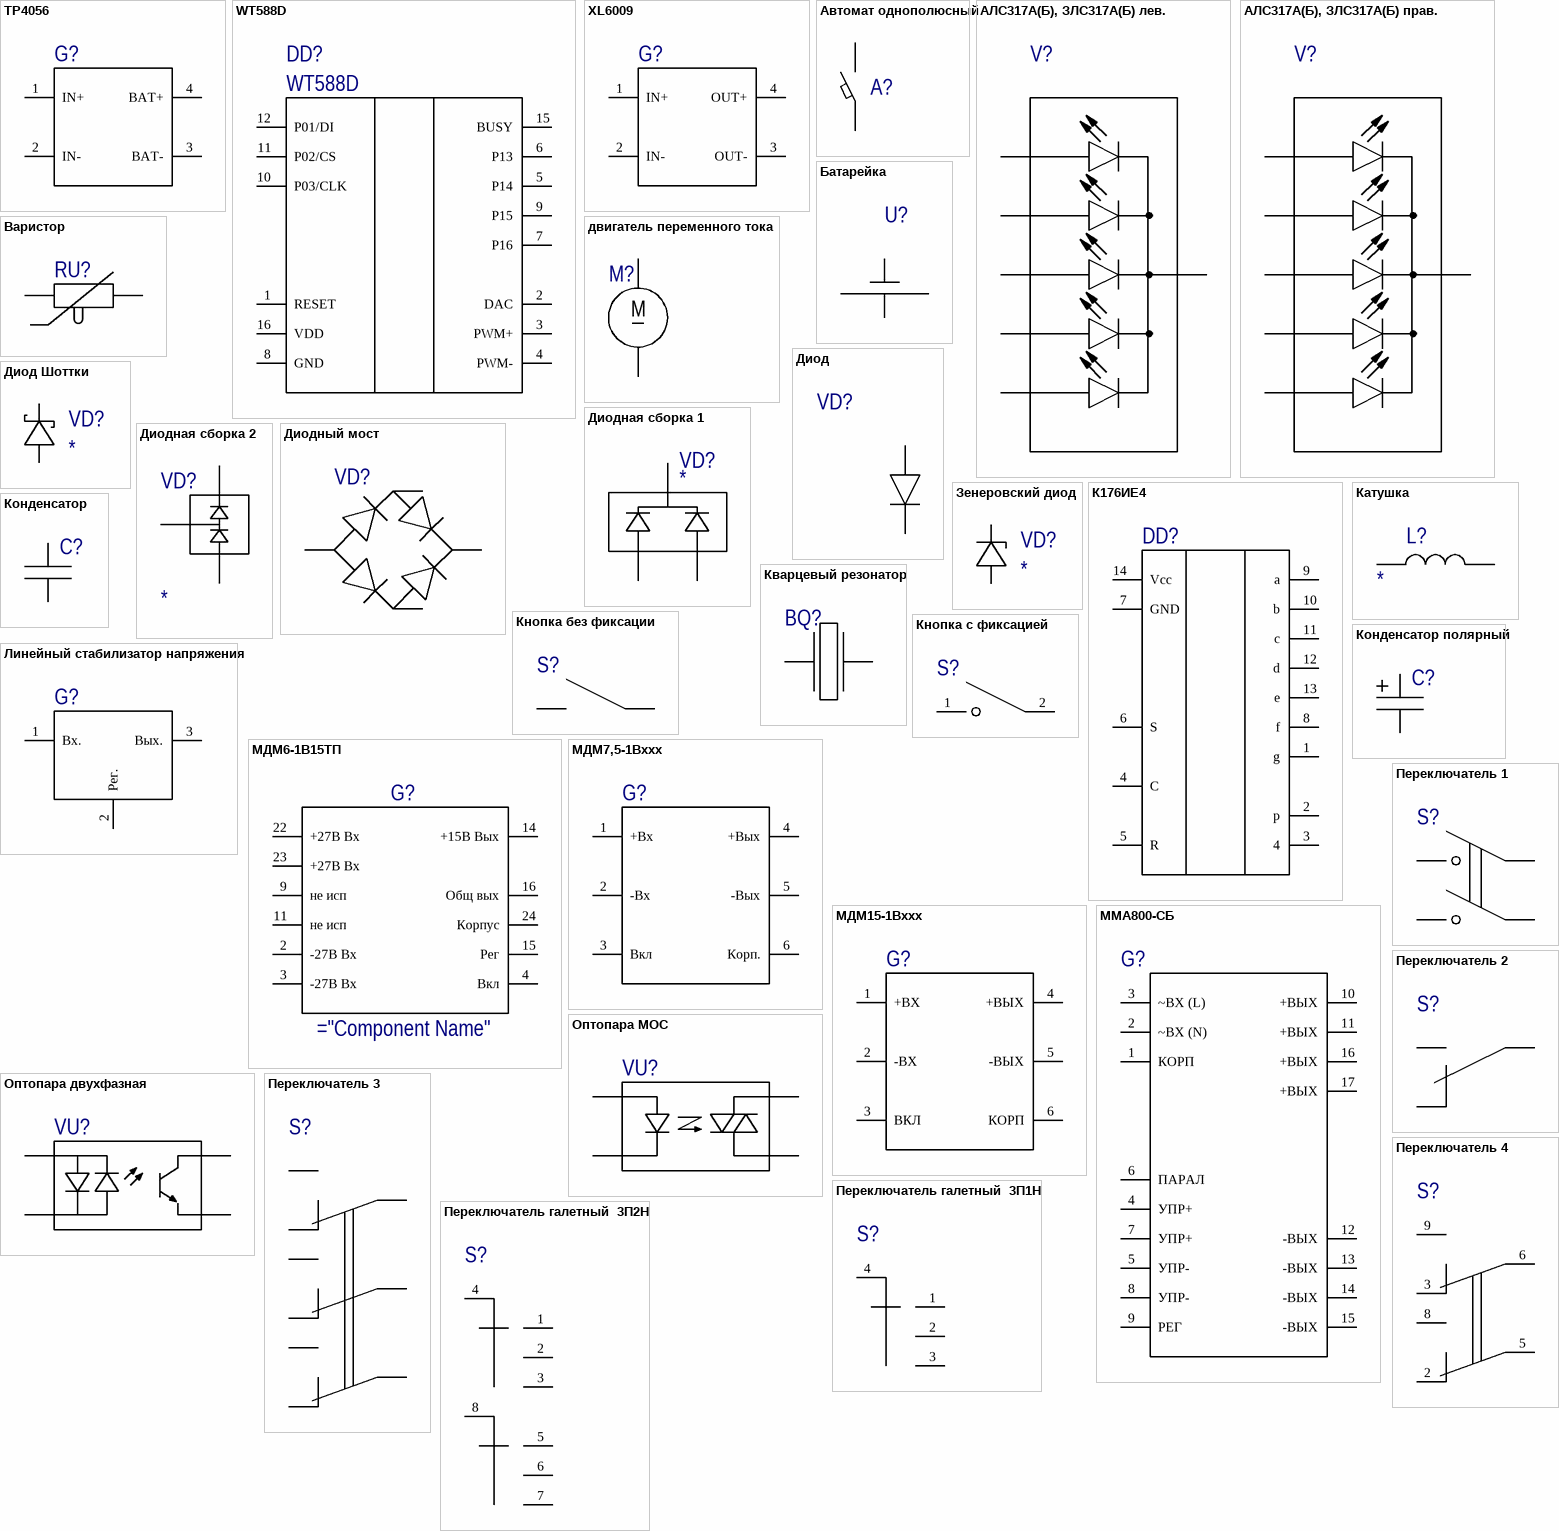
[diagram p4: symbols TP4056 to Переключатель галетный  3П2Н]

## TP4056
designator G?  (value not drawn)
Модуль зарядки литиевых аккумуляторов; ComponentKind: Standart; ComponentName: TP4056; ComponentType: Модуль зарядки литиевых аккумуляторов; Designator: *; Footprint: *; Library Reference: *; Manufacturer: *; Package: *; Part Number: *; TechSpec: *; Tolerance: *; Value: *; Voltage: *; ValueManufacturerPartNumber: =ComponentType+' '+ComponentName+" "+TechSpec
footprint TP4056
pins: 1 IN+, 2 IN-, 3 BAT-, 4 BAT+

## WT588D
designator DD?
плеер; ComponentKind: Standart; ComponentName: WT588D; ComponentType: плеер; Designator: *; Footprint: *; LibraryReference: *; Manufacturer: *; Package: *; PartNumber: *; TechSpec: *; Tolerance: *; Value: *; Voltage: *; ValueManufacturerPartNumber: =Designator+’-’+Power+’-‘+Value+’ ‘+Tolerance+’ ‘+TechSpec; Power: *
pins: 1 RESET, 2 DAC, 3 PWM+, 4 PWM-, 5 P14, 6 P13, 7 P16, 8 GND, 9 P15, 10 P03/CLK, 11 P02/CS, 12 P01/DI, 15 BUSY, 16 VDD

## XL6009
designator G?  (value not drawn)
Повышающий dc-dc; ComponentKind: Standart; ComponentName: XL6009; ComponentType: Модуль зарядки литиевых аккумуляторов; Designator: *; Footprint: *; Library Reference: *; Manufacturer: *; Package: *; Part Number: *; TechSpec: *; Tolerance: *; Value: *; Voltage: *; ValueManufacturerPartNumber: =ComponentType+' '+ComponentName+" "+TechSpec
pins: 1 IN+, 2 IN-, 3 OUT-, 4 OUT+

## Автомат однополюсный
designator A?  (value not drawn)
Автомат однополюсный; ValueManufacturerPartNumber: Автомат однополюсный *-*-** *; ComponentKind: Standart; ComponentName: *; ComponentType: Автомат однополюсный; Designator: *; Footprint: *; LibraryReference: *; Manufacturer: *; Package: *; PartNumber: *; TechSpec: *; Tolerance: *; Value: *; Voltage: *
pins: 1, 2

## АЛС317А(Б), ЗЛС317А(Б) лев.
designator V?  (value not drawn)
Светодиодная полоса лев.; Component Kind: Standart; Component Name: *; Component Type: *; Designator: *; Footprint: *; Library Reference: *; Manufacturer: *; Package: *; Part Number: *; TechSpec: *; Tolerance: *; Value: *; Voltage: *; ValueManufacturerPartNumber: =Designator+’-’+Power+’-‘+Value+’ ‘+Tolerance+’ ‘+TechSpec; Power: *
pins: 1 а, 2 а, 3 а, 4 а, 5 а, 6 ка

## АЛС317А(Б), ЗЛС317А(Б) прав.
designator V?  (value not drawn)
Светодиодная полоса прав.; Component Kind: Standart; Component Name: *; Component Type: *; Designator: *; Footprint: *; Library Reference: *; Manufacturer: *; Package: *; Part Number: *; TechSpec: *; Tolerance: *; Value: *; Voltage: *; ValueManufacturerPartNumber: =Designator+’-’+Power+’-‘+Value+’ ‘+Tolerance+’ ‘+TechSpec; Power: *
pins: 1 а, 2 а, 3 а, 4 а, 5 а, 6 ка

## Батарейка
designator U?, comment CR2032  (value not drawn)
батарейка; ComponentKind: Standart; ComponentName: CR2032; ComponentType: *; Designator: *; Footprint: *; LibraryReference: *; Manufacturer: *; Package: *; PartNumber: *; TechSpec: *; Tolerance: *; Value: *; Voltage: *; ValueManufacturerPartNumber: =Designator+’-’+Power+’-‘+Value+’ ‘+Tolerance+’ ‘+TechSpec; Power: *
footprint CR2032_HOR_HOLDER
pins: 1, 2

## Варистор
designator RU?  (value not drawn)
варистор; ValueManufacturerPartNumber: Варистор *-*-** *; ComponentKind: Standart; ComponentName: *; ComponentType: Варистор; Designator: *; Footprint: *; LibraryReference: *; Manufacturer: *; Package: *; PartNumber: *; TechSpec: *; Tolerance: *; Value: *; Voltage: *; Power: *
pins: 1, 2
text: U

## двигатель переменного тока
designator M?, comment Standart  (value not drawn)
Двигатель переменного тока; ValueManufacturerPartNumber: двигатель переменного тока * *; ComponentKind: Standart; ComponentName: *; ComponentType: двигатель переменного тока; Designator: *; Footprint: *; Library Reference: *; Manufacturer: *; Package: *; Part Number: *; TechSpec: *; Tolerance: *; Value: *; Voltage: *; Power: *
pins: 1, 2
text: М

## Диод
designator VD?  (value not drawn)
Диод; ValueManufacturerPartNumber: диод * *; ComponentKind: Standart; ComponentName: *; ComponentType: диод; Designator: *; Footprint: *; Library Reference: *; Manufacturer: *; Package: *; Part Number: *; TechSpec: *; Tolerance: *; Value: *; Voltage: *; Power: *
pins: 1 к, 2 а

## Диод Шоттки
designator VD?
диод Шоттки; ValueManufacturerPartNumber: диод * *; ComponentKind: Standart; ComponentName: *; ComponentType: диод; Designator: *; Footprint: *; Library Reference: *; Manufacturer: *; Package: *; Part Number: *; TechSpec: *; Tolerance: *; Value: *; Voltage: *
pins: 1, 2

## Диодная сборка 1
designator VD?
диодная сборка; ValueManufacturerPartNumber: Диод * *; ComponentKind: Standart; ComponentName: *; ComponentType: Диод; Designator: *; Footprint: *; LibraryReference: *; Manufacturer: *; Package: *; Part Number: *; TechSpec: *; Tolerance: *; Value: *; Voltage: *
pins: 1 А, 3 А, 4 К

## Диодная сборка 2
designator VD?
диодная сборка; ValueManufacturerPartNumber: Диод * *; ComponentKind: Standart; ComponentName: *; ComponentType: Диод; Designator: *; Footprint: *; Library Reference: *; Manufacturer: *; Package: *; Part Number: *; TechSpec: *; Tolerance: *; Value: *; Voltage: *
pins: 1, 2, 3

## Диодный мост
designator VD?  (value not drawn)
диодный мост; ValueManufacturerPartNumber: диодный мост * *; ComponentKind: Standart; ComponentName: *; ComponentType: диодный мост; Designator: *; Footprint: *; Library Reference: *; Manufacturer: *; Package: *; Part Number: *; TechSpec: *; Tolerance: *; Value: *; Voltage: *; Power: *
pins: 1 ~, 2 ~, 3 +, 4 -

## Зенеровский диод
designator VD?
стабилитрон; ValueManufacturerPartNumber: стабилитрон * *; ComponentKind: Standart; ComponentName: *; ComponentType: стабилитрон; Designator: *; Footprint: *; Library Reference: *; Manufacturer: *; Package: *; Part Number: *; TechSpec: *; Tolerance: *; Value: *; Voltage: *
pins: 1, 2

## К176ИЕ4
designator DD?  (value not drawn)
Счетчик с дешифратором; ComponentName: К176ИЕ4; ComponentKind: Standart; ComponentType: Микросхема; Designator: *; Footprint: *; LibraryReference: *; Manufacturer: *; Package: *; PartNumber: *; Tolerance: *; Value: *; Voltage: *; ValueManufacturerPartNumber: =ComponentType+’ ’+ComponentName+’ ‘+TechSpec; Power: *
footprint DIP14
pins: 1 g, 2 p, 3 4, 4 C, 5 R, 6 S, 7 GND, 8 f, 9 a, 10 b, 11 c, 12 d, 13 e, 14 Vcc

## Катушка
designator L?
Катушка; ComponentKind: Standart; ComponentName: *; ComponentType: *; Designator: *; Footprint: *; LibraryReference: *; Manufacturer: *; Package: *; PartNumber: *; TechSpec: *; Tolerance: *; Value: *; Voltage: *; ValueManufacturerPartNumber: =Designator+’ “’+Package+’”-‘+Voltage+’-‘+Value+’ ‘+Tolerance+’ ‘+TechSpec
pins: 1, 2

## Кварцевый резонатор
designator BQ?  (value not drawn)
кварцевый резонатор; ValueManufacturerPartNumber: * * *; ComponentKind: Standart; ComponentName: *; ComponentType: *; Designator: *; Footprint: *; LibraryReference: *; Manufacturer: *; Package: *; PartNumber: *; TechSpec: *; Tolerance: *; Value: *; Voltage: *; Power: *
footprint HC-49S
footprint DT-38T
pins: 1, 2

## Кнопка без фиксации
designator S?  (value not drawn)
Кнопка без фиксации; Component Kind: Standart; Component Name: *; Component Type: *; Designator: *; Footprint: *; Library Reference: *; Manufacturer: *; Package: *; Part Number: *; TechSpec: *; Tolerance: *; Value: *; Voltage: *; ValueManufacturerPartNumber: =Designator+’-’+Power+’-‘+Value+’ ‘+Tolerance+’ ‘+TechSpec; Power: *
pins: 1, 2

## Кнопка с фиксацией
designator S?  (value not drawn)
Кнопка с фиксацией; Component Kind: Standart; Component Name: *; Component Type: *; Designator: *; Footprint: *; Library Reference: *; Manufacturer: *; Package: *; Part Number: *; TechSpec: *; Tolerance: *; Value: *; Voltage: *; ValueManufacturerPartNumber: =Designator+’-’+Power+’-‘+Value+’ ‘+Tolerance+’ ‘+TechSpec; Power: *
pins: 1, 2

## Конденсатор
designator C?  (value not drawn)
конденсатор; ValueManufacturerPartNumber: Конденсатор *-*-** *; ComponentKind: Standart; ComponentName: *; ComponentType: Конденсатор; Designator: *; Footprint: *; LibraryReference: *; Manufacturer: *; Package: *; PartNumber: *; TechSpec: *; Tolerance: *; Value: *; Voltage: *
footprint C0201_A
footprint C0402_A
footprint C0402_H
footprint C0603_A
footprint C0603_H
footprint C0805_A
footprint C0805_H
footprint C1206_A
footprint C1206_H
footprint C1210_A
footprint C1210_AA
footprint C1210_H
footprint C1812_A
footprint C1812_H
footprint C1825_A
footprint C1825_H
footprint C2220_A
footprint C2220_H
footprint C2225_A
footprint C2225_H
footprint К10-17б 0805
pins: 1, 2

## Конденсатор полярный
designator C?  (value not drawn)
конденсатор полярный; ValueManufacturerPartNumber: Конденсатор *-*-** *; ComponentKind: Standart; ComponentName: *; ComponentType: Конденсатор; Designator: *; Footprint: *; LibraryReference: *; Manufacturer: *; Package: *; PartNumber: *; TechSpec: *; Tolerance: *; Value: *; Voltage: *
footprint Jamicon 22x50
footprint SMDA_A
footprint SMDA_H
pins: 1, 2

## Линейный стабилизатор напряжения
designator G?
Линейный стабилизатор напряжения; ValueManufacturerPartNumber: * * *; ComponentKind: Standart; ComponentName: *; ComponentType: *; Designator: *; Footprint: *; LibraryReference: *; Manufacturer: *; Package: *; PartNumber: *; TechSpec: *; Tolerance: *; Value: *; Voltage: *; Power: *
pins: 1 Вх., 2 Рег., 3 Вых.

## МДМ6-1В15ТП
designator G?
DC-конвертор с гальванической развязкой; ComponentKind: Standart; ComponentName: *; ComponentType: Модуль питания; Designator: *; Footprint: *; Library Reference: *; Manufacturer: *; Package: *; Part Number: *; TechSpec: *; Tolerance: *; Value: *; Voltage: *; ValueManufacturerPartNumber: =ComponentType+' '+ComponentName+" "+TechSpec
pins: 2 -27В Вх, 3 -27В Вх, 4 Вкл, 9 не исп, 11 не исп, 14 +15В Вых, 15 Рег, 16 Общ вых, 22 +27В Вх, 23 +27В Вх, 24 Корпус

## МДМ7,5-1Вххх
designator G?
DC-DC конвертор; ComponentName: МДМ7,5-1Вххх; Power: 15Вт; ComponentKind: Standart; ComponentType: Модуль питания; Designator: *; Footprint: *; Library Reference: *; Manufacturer: *; Package: *; Part Number: *; TechSpec: *; Tolerance: *; Value: *; Voltage: *; ValueManufacturerPartNumber: =ComponentType+' '+ComponentName+" "+TechSpec
pins: 1 +Вх, 2 -Вх, 3 Вкл, 4 +Вых, 5 -Вых, 6 Корп.

## МДМ15-1Вххх
designator G?
DC-DC конвертор; ComponentName: МДМ15-1Вххх; Power: 15Вт; ComponentKind: Standart; ComponentType: Модуль питания; Designator: *; Footprint: *; Library Reference: *; Manufacturer: *; Package: *; Part Number: *; TechSpec: *; Tolerance: *; Value: *; Voltage: *; ValueManufacturerPartNumber: =ComponentType+' '+ComponentName+" "+TechSpec
pins: 1 +ВХ, 2 -ВХ, 3 ВКЛ, 4 +ВЫХ, 5 -ВЫХ, 6 КОРП

## ММА800-СБ
designator G?
AC-DC преобразователь; ValueManufacturerPartNumber: Модуль питания МАА800-1С27СБП БКЯЮ.4З6610.015 ТУ; ComponentName: МАА800-1С27СБП; TechSpec: БКЯЮ.4З6610.015 ТУ; Power: 800Вт; ComponentKind: Standart; ComponentType: Модуль питания; Designator: *; Footprint: *; Library Reference: *; Manufacturer: *; Package: *; Part Number: *; Tolerance: *; Value: *; Voltage: *
pins: 1 КОРП, 2 ~ВХ (N), 3 ~ВХ (L), 4 УПР+, 5 УПР-, 6 ПАРАЛ, 7 УПР+, 8 УПР-, 9 РЕГ, 10 +ВЫХ, 11 +ВЫХ, 12 -ВЫХ, 13 -ВЫХ, 14 -ВЫХ, 15 -ВЫХ, 16 +ВЫХ, 17 +ВЫХ

## Оптопара MOC
designator VU?, comment MOC3023M  (value not drawn)
оптопара с симисторным выходом; ValueManufacturerPartNumber: Оптопара MOC3023M *; ComponentKind: Standart; ComponentName: MOC3023M; ComponentType: Оптопара; Designator: *; Footprint: *; Library Reference: *; Manufacturer: *; Package: *; Part Number: *; TechSpec: *; Tolerance: *; Value: *; Voltage: *
footprint DIP6
pins: 1, 2, 4, 6

## Оптопара двухфазная
designator VU?, comment PC814  (value not drawn)
оптопара; ValueManufacturerPartNumber: Оптопара PC814 *; ComponentKind: Standart; ComponentName: PC814; ComponentType: Оптопара; Designator: *; Footprint: *; Library Reference: *; Manufacturer: *; Package: *; Part Number: *; TechSpec: *; Tolerance: *; Value: *; Voltage: *
footprint DIP6
pins: 1, 2, 3, 4

## Переключатель 1
designator S?
Переключатель 1; ValueManufacturerPartNumber: * * *; ComponentKind: Standart; ComponentName: *; ComponentType: *; Designator: *; Footprint: *; LibraryReference: *; Manufacturer: *; Package: *; PartNumber: *; TechSpec: *; Tolerance: *; Value: *; Voltage: *; Power: *
pins: 4, 6, 7, 9

## Переключатель 2
designator S?
Переключатель 2; ValueManufacturerPartNumber: * * *; ComponentKind: Standart; ComponentName: *; ComponentType: *; Designator: *; Footprint: *; LibraryReference: *; Manufacturer: *; Package: *; PartNumber: *; TechSpec: *; Tolerance: *; Value: *; Voltage: *; Power: *
pins: 6, 7, 9

## Переключатель 3
designator S?
Переключатель 3; ValueManufacturerPartNumber: * * *; ComponentKind: Standart; ComponentName: *; ComponentType: *; Designator: *; Footprint: *; LibraryReference: *; Manufacturer: *; Package: *; PartNumber: *; TechSpec: *; Tolerance: *; Value: *; Voltage: *; Power: *
pins: 1, 2, 3, 4, 5, 6, 7, 8, 9

## Переключатель 4
designator S?
Переключатель 4; ValueManufacturerPartNumber: * * *; ComponentKind: Standart; ComponentName: *; ComponentType: *; Designator: *; Footprint: *; LibraryReference: *; Manufacturer: *; Package: *; PartNumber: *; TechSpec: *; Tolerance: *; Value: *; Voltage: *; Power: *
pins: 2, 3, 5, 6, 8, 9

## Переключатель галетный  3П1Н
designator S?
Переключатель галетный 3П1Н; ValueManufacturerPartNumber: Переключатель * *; ComponentKind: Standart; ComponentName: *; ComponentType: Переключатель; Designator: *; Footprint: *; LibraryReference: *; Manufacturer: *; Package: *; PartNumber: *; TechSpec: *; Tolerance: *; Value: *; Voltage: *; Power: *
pins: 1, 2, 3, 4

## Переключатель галетный  3П2Н
designator S?
Переключатель галетный 3П2Н; ValueManufacturerPartNumber: Переключатель * *; ComponentKind: Standart; ComponentName: *; ComponentType: Переключатель; Designator: *; Footprint: *; LibraryReference: *; Manufacturer: *; Package: *; PartNumber: *; TechSpec: *; Tolerance: *; Value: *; Voltage: *; Power: *
pins: 1, 2, 3, 4, 5, 6, 7, 8

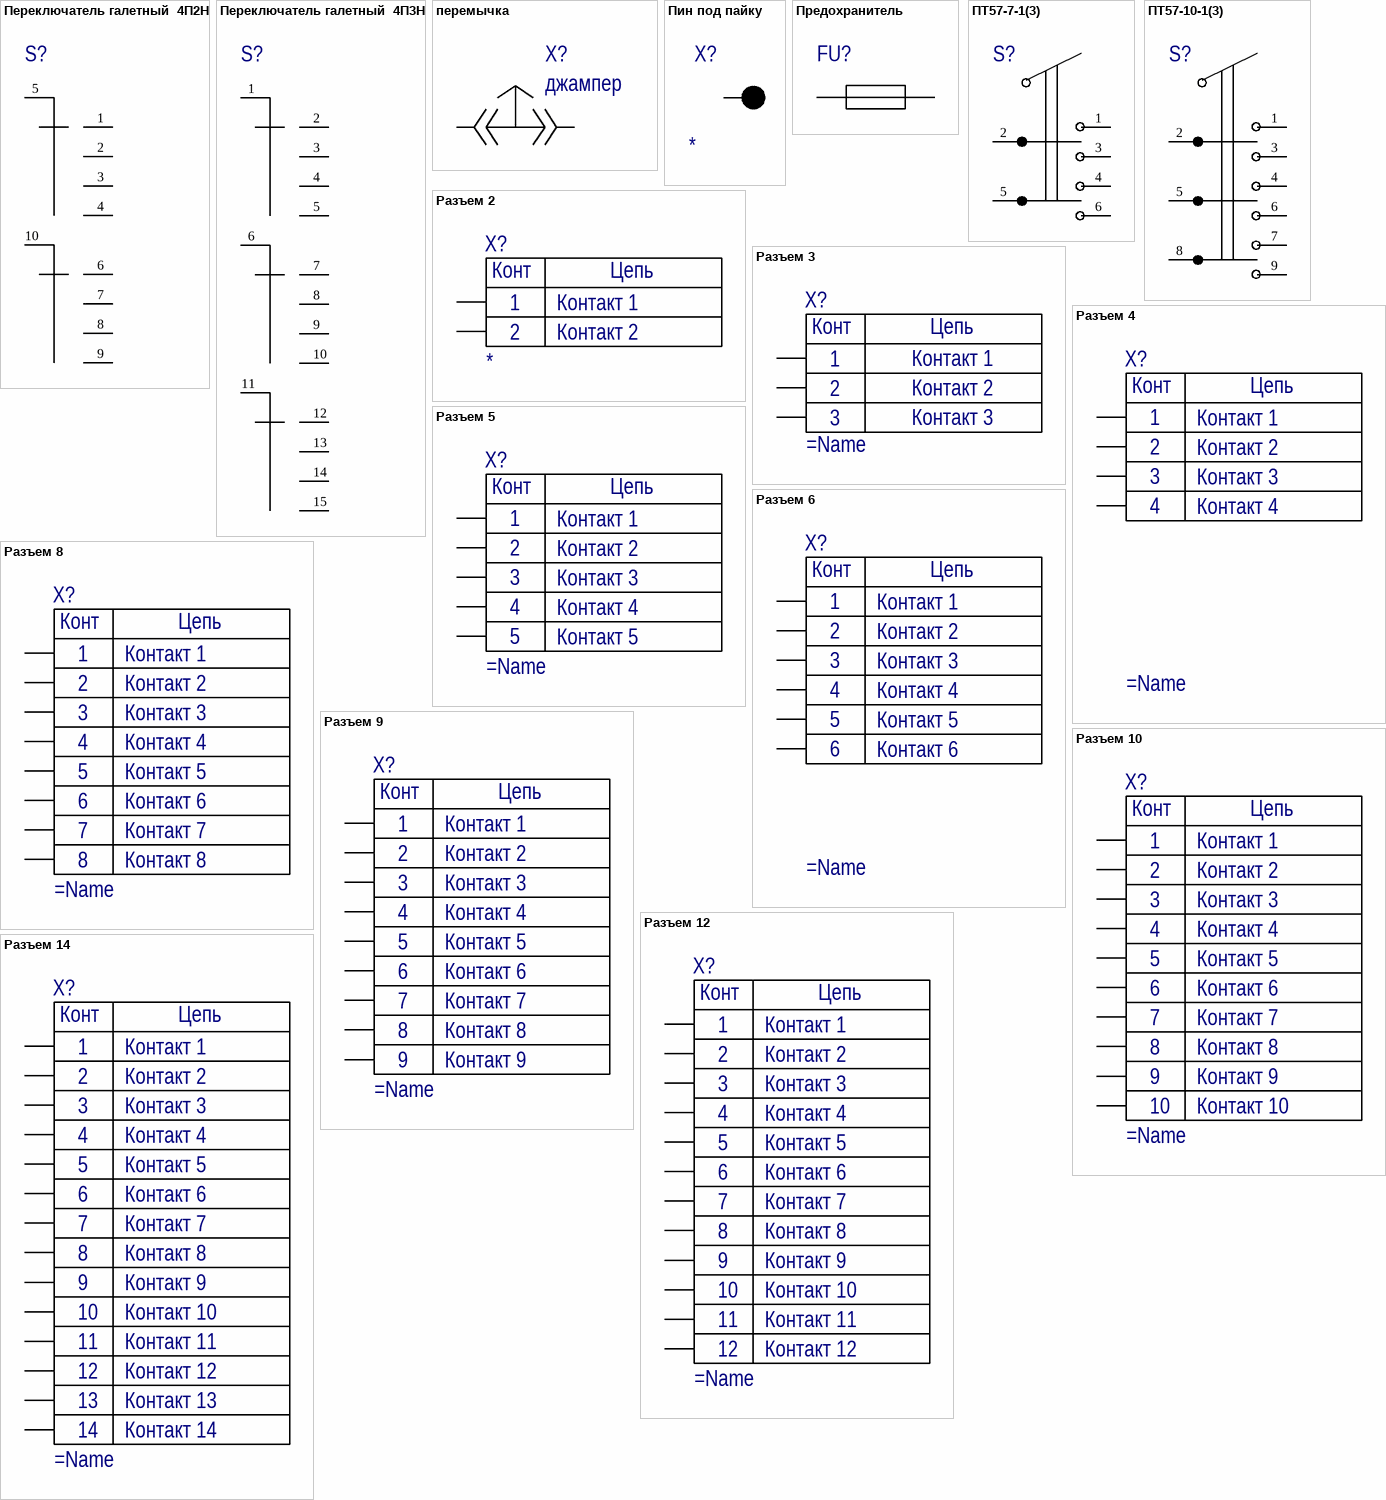
[diagram p5: symbols Переключатель галетный  4П2Н to Разъем 14]

## Переключатель галетный  4П2Н
designator S?
Переключатель галетный 4П2Н; ValueManufacturerPartNumber: Переключатель * *; ComponentKind: Standart; ComponentName: *; ComponentType: Переключатель; Designator: *; Footprint: *; LibraryReference: *; Manufacturer: *; Package: *; PartNumber: *; TechSpec: *; Tolerance: *; Value: *; Voltage: *; Power: *
pins: 1, 2, 3, 4, 5, 6, 7, 8, 9, 10

## Переключатель галетный  4П3Н
designator S?
Переключатель галетный 4П3Н; ValueManufacturerPartNumber: Переключатель * *; ComponentKind: Standart; ComponentName: *; ComponentType: Переключатель; Designator: *; Footprint: *; LibraryReference: *; Manufacturer: *; Package: *; PartNumber: *; TechSpec: *; Tolerance: *; Value: *; Voltage: *; Power: *
pins: 1, 2, 3, 4, 5, 6, 7, 8, 9, 10, 11, 12, 13, 14, 15

## перемычка
designator X?, comment джампер
Разъем 2-x контактный; Contact_1: Контакт 1; Contact_2: Контакт 2; 1: 1; 2: 2; ComponentName: джампер; ComponentType: *; Designator: *; LibraryReference: *; Manufacturer: *; Package: *; PartNumber: *; TechSpec: *; Tolerance: *; Value: *; Voltage: *; ValueManufacturerPartNumber: =Designator+’ “’+Package+’”-‘+Voltage+’-‘+Value+’ ‘+Tolerance+’ ‘+TechSpec
footprint PLS-2
pins: 1, 2

## Пин под пайку
designator X?  (no BOM)
пин под пайку; Component Name: *; Component Type: *; Designator: *; Footprint: *; Library Reference: *; Manufacturer: *; Package: *; Part Number: *; TechSpec: *; Tolerance: *; Value: *; Voltage: *; ValueManufacturerPartNumber: =Designator+’ “’+Package+’”-‘+Voltage+’-‘+Value+’ ‘+Tolerance+’ ‘+TechSpec
footprint пин под столбик
pins: 1

## Предохранитель
designator FU?  (value not drawn)
предохранитель; ValueManufacturerPartNumber: Вставка плавкая *, * *; ComponentKind: Standart; ComponentName: *; ComponentType: Вставка плавкая; Designator: *; Footprint: *; Library Reference: *; Manufacturer: *; Package: *; Part Number: *; TechSpec: *; Tolerance: *; Value: *; Voltage: *; Power: *
pins: 1, 2

## ПТ57-7-1(3)
designator S?
Переключатель; ValueManufacturerPartNumber: Тумблер ТП57-10-1 АГ0.360.053ТУ; ComponentName: ТП57-10-1; TechSpec: АГ0.360.053ТУ; ComponentKind: Standart; ComponentType: Тумблер; Designator: *; Footprint: *; LibraryReference: *; Manufacturer: *; Package: *; PartNumber: *; Tolerance: *; Value: *; Voltage: *; Power: *
pins: 1, 2, 3, 4, 5, 6

## ПТ57-10-1(3)
designator S?
Переключатель; ValueManufacturerPartNumber: Тумблер ТП57-10-1 АГ0.360.053ТУ; ComponentName: ТП57-10-1; TechSpec: АГ0.360.053ТУ; ComponentKind: Standart; ComponentType: Тумблер; Designator: *; Footprint: *; LibraryReference: *; Manufacturer: *; Package: *; PartNumber: *; Tolerance: *; Value: *; Voltage: *; Power: *
pins: 1, 2, 3, 4, 5, 6, 7, 8, 9

## Разъем 2
designator X?
Разъем 2-x контактный; Contact_1: Контакт 1; Contact_2: Контакт 2; 1: 1; 2: 2; ComponentName: *; ComponentType: *; Designator: *; LibraryReference: *; Manufacturer: *; Package: *; PartNumber: *; TechSpec: *; Tolerance: *; Value: *; Voltage: *; ValueManufacturerPartNumber: =Designator+’ “’+Package+’”-‘+Voltage+’-‘+Value+’ ‘+Tolerance+’ ‘+TechSpec
pins: 1, 2
text: Конт; Цепь

## Разъем 3
designator X?
Разъем 3-x контактный; Contact_1: Контакт 1; Contact_2: Контакт 2; Contact_3: Контакт 3; 1: 1; 2: 2; 3: 3; 4: 4; 5: 5; 6: 6; ComponentName: *; ComponentType: *; Designator: *; LibraryReference: *; Manufacturer: *; Package: *; PartNumber: *; TechSpec: *; Tolerance: *; Value: *; Voltage: *; ValueManufacturerPartNumber: =Designator+’ “’+Package+’”-‘+Voltage+’-‘+Value+’ ‘+Tolerance+’ ‘+TechSpec
pins: 1, 2, 3
text: Конт; Цепь

## Разъем 4
designator X?
Разъем 6-ти контактный; Contact_1: Контакт 1; Contact_2: Контакт 2; Contact_3: Контакт 3; Contact_4: Контакт 4; 1: 1; 2: 2; 3: 3; 4: 4; Component Name: *; Component Type: *; Designator: *; Library Reference: *; Manufacturer: *; Package: *; Part Number: *; TechSpec: *; Tolerance: *; Value: *; Voltage: *; ValueManufacturerPartNumber: =Designator+’ “’+Package+’”-‘+Voltage+’-‘+Value+’ ‘+Tolerance+’ ‘+TechSpec
pins: 1, 2, 3, 4
text: Конт; Цепь

## Разъем 5
designator X?
Разъем 5-ти контактный; Contact_1: Контакт 1; Contact_2: Контакт 2; Contact_3: Контакт 3; Contact_4: Контакт 4; Contact_5: Контакт 5; 1: 1; 2: 2; 3: 3; 4: 4; 5: 5; ComponentName: *; ComponentType: *; Designator: *; LibraryReference: *; Manufacturer: *; Package: *; PartNumber: *; TechSpec: *; Tolerance: *; Value: *; Voltage: *; ValueManufacturerPartNumber: =Designator+’ “’+Package+’”-‘+Voltage+’-‘+Value+’ ‘+Tolerance+’ ‘+TechSpec
pins: 1, 2, 3, 4, 5
text: Конт; Цепь

## Разъем 6
designator X?
Разъем 6-ти контактный; Contact_1: Контакт 1; Contact_2: Контакт 2; Contact_3: Контакт 3; Contact_4: Контакт 4; Contact_5: Контакт 5; Contact_6: Контакт 6; 1: 1; 2: 2; 3: 3; 4: 4; 5: 5; 6: 6; ComponentName: *; ComponentType: *; Designator: *; LibraryReference: *; Manufacturer: *; Package: *; PartNumber: *; TechSpec: *; Tolerance: *; Value: *; Voltage: *; ValueManufacturerPartNumber: =Designator+’ “’+Package+’”-‘+Voltage+’-‘+Value+’ ‘+Tolerance+’ ‘+TechSpec
footprint PBD-6
pins: 1, 2, 3, 4, 5, 6
text: Конт; Цепь

## Разъем 8
designator X?
Разъем 9-ти контактный; Contact_1: Контакт 1; Contact_2: Контакт 2; Contact_3: Контакт 3; Contact_4: Контакт 4; Contact_5: Контакт 5; Contact_6: Контакт 6; Contact_7: Контакт 7; Contact_8: Контакт 8; 1: 1; 2: 2; 3: 3; 4: 4; 5: 5; 6: 6; 7: 7; 8: 8; Component Kind: *; Component Name: *; Component Type: *; Designator: *; Footprint: *; Library Reference: *; Manufacturer: *; Package: *; Part Number: *; TechSpec: *; Tolerance: *; Value: *; Voltage: *; ValueManufacturerPartNumber: =Designator+’ “’+Package+’”-‘+Voltage+’-‘+Value+’ ‘+Tolerance+’ ‘+TechSpec
pins: 1, 2, 3, 4, 5, 6, 7, 8
text: Конт; Цепь

## Разъем 9
designator X?
Разъем 9-ти контактный; Contact_1: Контакт 1; Contact_2: Контакт 2; Contact_3: Контакт 3; Contact_4: Контакт 4; Contact_5: Контакт 5; Contact_6: Контакт 6; Contact_7: Контакт 7; Contact_8: Контакт 8; Contact_9: Контакт 9; 1: 1; 2: 2; 3: 3; 4: 4; 5: 5; 6: 6; 7: 7; 8: 8; 9: 9; Component Kind: *; Component Name: *; Component Type: *; Designator: *; Footprint: *; Library Reference: *; Manufacturer: *; Package: *; Part Number: *; TechSpec: *; Tolerance: *; Value: *; Voltage: *; ValueManufacturerPartNumber: =Designator+’ “’+Package+’”-‘+Voltage+’-‘+Value+’ ‘+Tolerance+’ ‘+TechSpec
pins: 1, 2, 3, 4, 5, 6, 7, 8, 9
text: Конт; Цепь

## Разъем 10
designator X?
Разъем 10-ти контактный; Contact_1: Контакт 1; Contact_2: Контакт 2; Contact_3: Контакт 3; Contact_4: Контакт 4; Contact_5: Контакт 5; Contact_6: Контакт 6; Contact_7: Контакт 7; Contact_8: Контакт 8; Contact_9: Контакт 9; Contact_10: Контакт 10; 1: 1; 2: 2; 3: 3; 4: 4; 5: 5; 6: 6; 7: 7; 8: 8; 9: 9; 10: 10; Component Kind: *; Component Name: *; Component Type: *; Designator: *; Footprint: *; Library Reference: *; Manufacturer: *; Package: *; Part Number: *; TechSpec: *; Tolerance: *; Value: *; Voltage: *; ValueManufacturerPartNumber: =Designator+’ “’+Package+’”-‘+Voltage+’-‘+Value+’ ‘+Tolerance+’ ‘+TechSpec
pins: 1, 2, 3, 4, 5, 6, 7, 8, 9, 10
text: Конт; Цепь

## Разъем 12
designator X?
разъем 12-ти контактный; Contact_1: Контакт 1; Contact_2: Контакт 2; Contact_3: Контакт 3; Contact_4: Контакт 4; Contact_5: Контакт 5; Contact_6: Контакт 6; Contact_7: Контакт 7; Contact_8: Контакт 8; Contact_9: Контакт 9; Contact_10: Контакт 10; Contact_11: Контакт 11; Contact_12: Контакт 12; 1: 1; 2: 2; 3: 3; 4: 4; 5: 5; 6: 6; 7: 7; 8: 8; 9: 9; 10: 10; Component Kind: *; Component Name: *; Component Type: *; Designator: *; Footprint: *; Library Reference: *; Manufacturer: *; Package: *; Part Number: *; TechSpec: *; Tolerance: *; Value: *; Voltage: *; ValueManufacturerPartNumber: =Designator+’ “’+Package+’”-‘+Voltage+’-‘+Value+’ ‘+Tolerance+’ ‘+TechSpec; 11: 11; 12: 12
pins: 1, 2, 3, 4, 5, 6, 7, 8, 9, 10, 11, 12
text: Конт; Цепь

## Разъем 14
designator X?
разъем 14-ти контактный; Contact_1: Контакт 1; Contact_2: Контакт 2; Contact_3: Контакт 3; Contact_4: Контакт 4; Contact_5: Контакт 5; Contact_6: Контакт 6; Contact_7: Контакт 7; Contact_8: Контакт 8; Contact_9: Контакт 9; Contact_10: Контакт 10; Contact_11: Контакт 11; Contact_12: Контакт 12; Contact_13: Контакт 13; Contact_14: Контакт 14; 1: 1; 2: 2; 3: 3; 4: 4; 5: 5; 6: 6; 7: 7; 8: 8; 9: 9; 10: 10; Component Kind: *; Component Name: *; Component Type: *; Designator: *; Footprint: *; Library Reference: *; Manufacturer: *; Package: *; Part Number: *; TechSpec: *; Tolerance: *; Value: *; Voltage: *; ValueManufacturerPartNumber: =Designator+’ “’+Package+’”-‘+Voltage+’-‘+Value+’ ‘+Tolerance+’ ‘+TechSpec; 11: 11; 12: 12; 13: 13; 14: 14
pins: 1, 2, 3, 4, 5, 6, 7, 8, 9, 10, 11, 12, 13, 14
text: Конт; Цепь

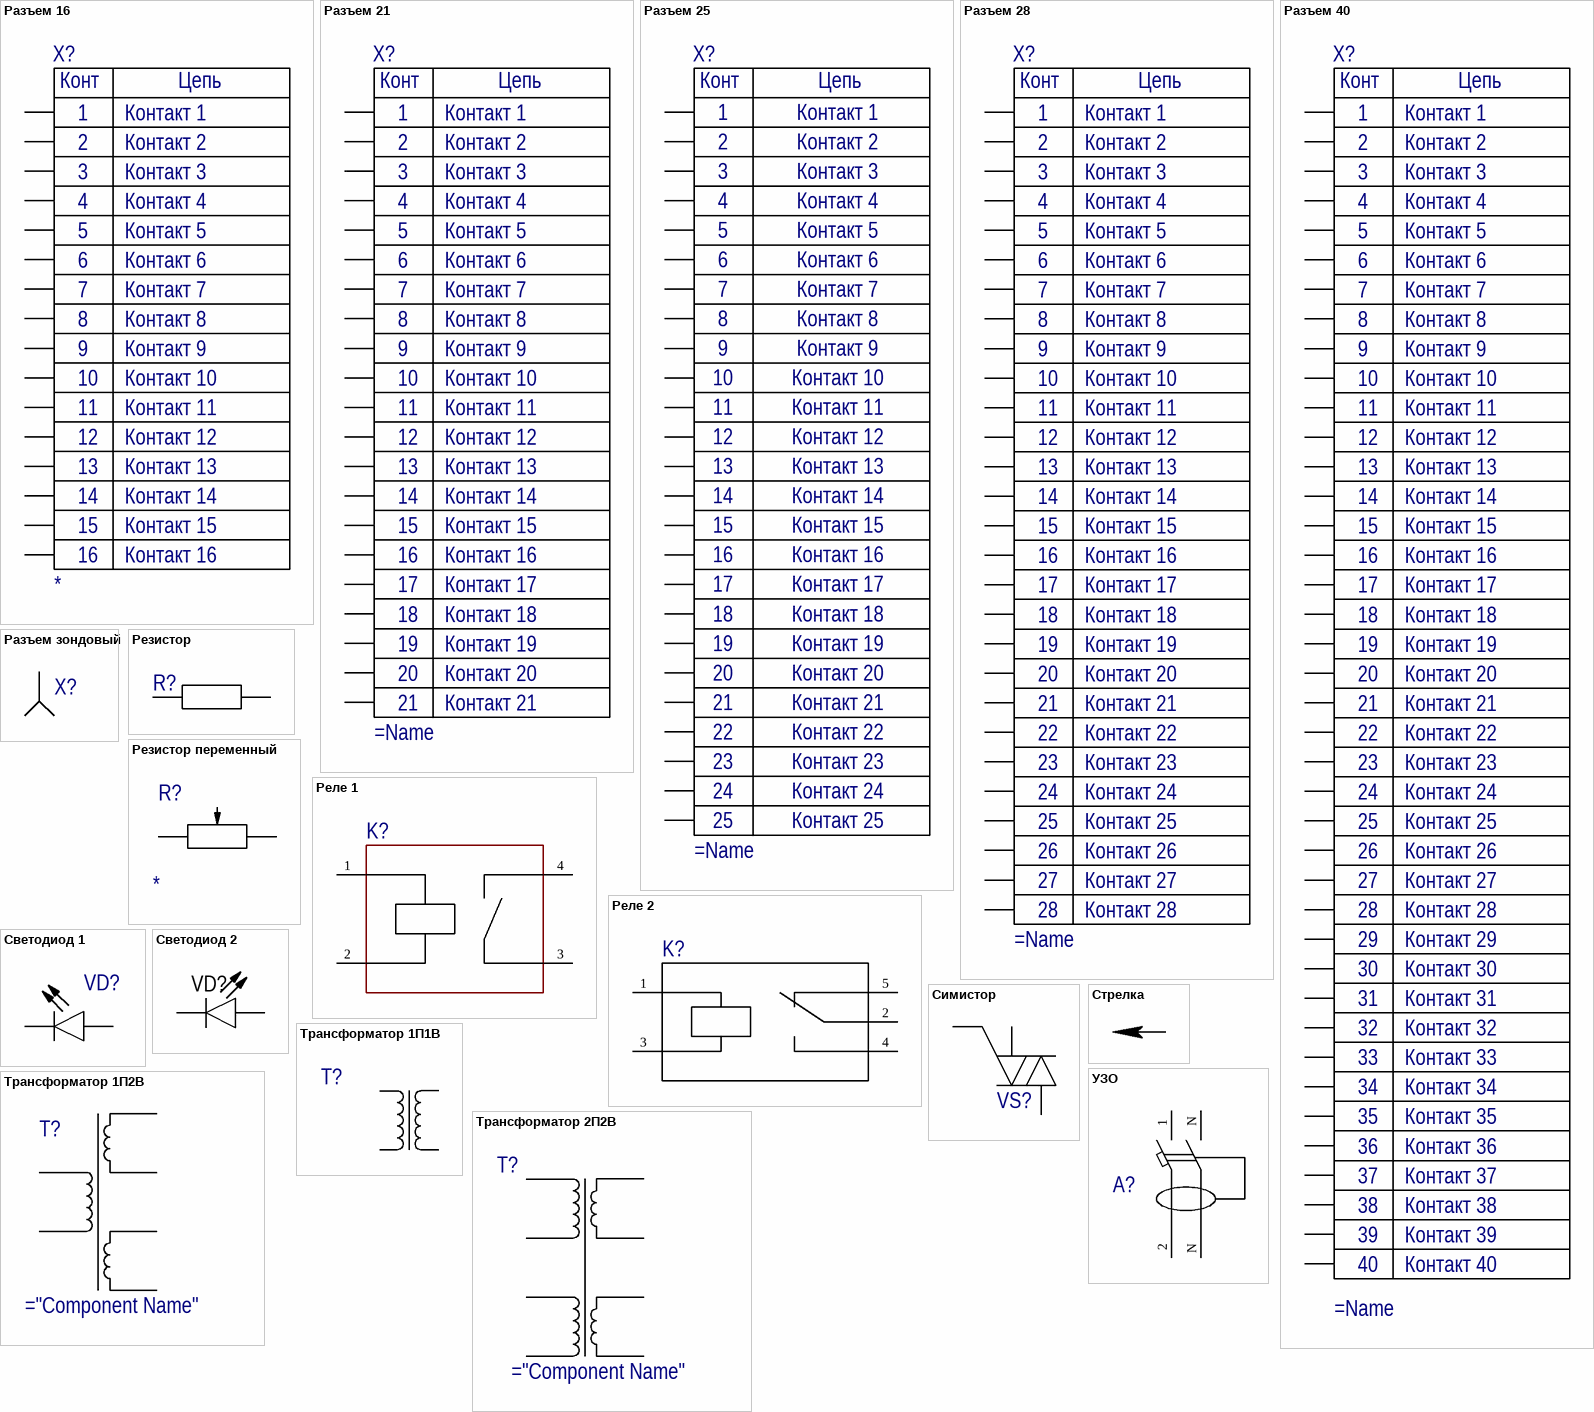
[diagram p6: symbols Разъем 16 to УЗО]

## Разъем 16
designator X?
разъем 16 контактный; Contact_1: Контакт 1; Contact_2: Контакт 2; Contact_3: Контакт 3; Contact_4: Контакт 4; Contact_5: Контакт 5; Contact_6: Контакт 6; Contact_7: Контакт 7; Contact_8: Контакт 8; Contact_9: Контакт 9; Contact_10: Контакт 10; Contact_11: Контакт 11; Contact_12: Контакт 12; Contact_13: Контакт 13; Contact_14: Контакт 14; Contact_15: Контакт 15; Contact_16: Контакт 16; 1: 1; 2: 2; 3: 3; 4: 4; 5: 5; 6: 6; 7: 7; 8: 8; 9: 9; 10: 10; ComponentKind: *; ComponentName: *; ComponentType: *; Designator: *; Footprint: *; LibraryReference: *; Manufacturer: *; Package: *; PartNumber: *; TechSpec: *; Tolerance: *; Value: *; Voltage: *; ValueManufacturerPartNumber: =Designator+’ “’+Package+’”-‘+Voltage+’-‘+Value+’ ‘+Tolerance+’ ‘+TechSpec; 11: 11; 12: 12; 13: 13; 14: 14; 15: 15; 16: 16
pins: 1, 2, 3, 4, 5, 6, 7, 8, 9, 10, 11, 12, 13, 14, 15, 16
text: Конт; Цепь

## Разъем 21
designator X?
разъем 21 контактный; Contact_1: Контакт 1; Contact_2: Контакт 2; Contact_3: Контакт 3; Contact_4: Контакт 4; Contact_5: Контакт 5; Contact_6: Контакт 6; Contact_7: Контакт 7; Contact_8: Контакт 8; Contact_9: Контакт 9; Contact_10: Контакт 10; Contact_11: Контакт 11; Contact_12: Контакт 12; Contact_13: Контакт 13; Contact_14: Контакт 14; Contact_15: Контакт 15; Contact_16: Контакт 16; Contact_17: Контакт 17; Contact_18: Контакт 18; Contact_19: Контакт 19; Contact_20: Контакт 20; Contact_21: Контакт 21; 1: 1; 2: 2; 3: 3; 4: 4; 5: 5; 6: 6; 7: 7; 8: 8; 9: 9; 10: 10; Component Kind: *; Component Name: *; Component Type: *; Designator: *; Footprint: *; Library Reference: *; Manufacturer: *; Package: *; Part Number: *; TechSpec: *; Tolerance: *; Value: *; Voltage: *; ValueManufacturerPartNumber: =Designator+’ “’+Package+’”-‘+Voltage+’-‘+Value+’ ‘+Tolerance+’ ‘+TechSpec; 11: 11; 12: 12; 13: 13; 14: 14; 15: 15; 16: 16; 17: 17; 18: 18; 19: 19; 20: 20; 21: 21
pins: 1, 2, 3, 4, 5, 6, 7, 8, 9, 10, 11, 12, 13, 14, 15, 16, 17, 18, 19, 20, 21
text: Конт; Цепь

## Разъем 25
designator X?
разъем 25-ти контактный; Contact_1: Контакт 1; Contact_2: Контакт 2; Contact_3: Контакт 3; Contact_4: Контакт 4; Contact_5: Контакт 5; Contact_6: Контакт 6; Contact_7: Контакт 7; Contact_8: Контакт 8; Contact_9: Контакт 9; Contact_10: Контакт 10; Contact_11: Контакт 11; Contact_12: Контакт 12; Contact_13: Контакт 13; Contact_14: Контакт 14; Contact_15: Контакт 15; Contact_16: Контакт 16; Contact_17: Контакт 17; Contact_18: Контакт 18; Contact_19: Контакт 19; Contact_20: Контакт 20; Contact_21: Контакт 21; Contact_22: Контакт 22; Contact_23: Контакт 23; Contact_24: Контакт 24; Contact_25: Контакт 25; 1: 1; 2: 2; 3: 3; 4: 4; 5: 5; 6: 6; 7: 7; 8: 8; 9: 9; 10: 10; Component Kind: *; Component Name: *; Component Type: *; Designator: *; Footprint: *; Library Reference: *; Manufacturer: *; Package: *; Part Number: *; TechSpec: *; Tolerance: *; Value: *; Voltage: *; ValueManufacturerPartNumber: =Designator+’ “’+Package+’”-‘+Voltage+’-‘+Value+’ ‘+Tolerance+’ ‘+TechSpec; 11: 11; 12: 12; 13: 13; 14: 14; 15: 15; 16: 16; 17: 17; 18: 18; 19: 19; 20: 20; 21: 21; 22: 22; 23: 23; 24: 24; 25: 25
pins: 1, 2, 3, 4, 5, 6, 7, 8, 9, 10, 11, 12, 13, 14, 15, 16, 17, 18, 19, 20, 21, 22, 23, 24, 25
text: Конт; Цепь

## Разъем 28
designator X?
разъем 28-ми контактный; Contact_1: Контакт 1; Contact_2: Контакт 2; Contact_3: Контакт 3; Contact_4: Контакт 4; Contact_5: Контакт 5; Contact_6: Контакт 6; Contact_7: Контакт 7; Contact_8: Контакт 8; Contact_9: Контакт 9; Contact_10: Контакт 10; Contact_11: Контакт 11; Contact_12: Контакт 12; Contact_13: Контакт 13; Contact_14: Контакт 14; Contact_15: Контакт 15; Contact_16: Контакт 16; Contact_17: Контакт 17; Contact_18: Контакт 18; Contact_19: Контакт 19; Contact_20: Контакт 20; Contact_21: Контакт 21; Contact_22: Контакт 22; Contact_23: Контакт 23; Contact_24: Контакт 24; Contact_25: Контакт 25; Contact_26: Контакт 26; Contact_27: Контакт 27; Contact_28: Контакт 28; 1: 1; 2: 2; 3: 3; 4: 4; 5: 5; 6: 6; 7: 7; 8: 8; 9: 9; 10: 10; Component Kind: *; Component Name: *; Component Type: *; Designator: *; Footprint: *; Library Reference: *; Manufacturer: *; Package: *; Part Number: *; TechSpec: *; Tolerance: *; Value: *; Voltage: *; ValueManufacturerPartNumber: =Designator+’ “’+Package+’”-‘+Voltage+’-‘+Value+’ ‘+Tolerance+’ ‘+TechSpec; 11: 11; 12: 12; 13: 13; 14: 14; 15: 15; 16: 16; 17: 17; 18: 18; 19: 19; 20: 20; 21: 21; 22: 22; 23: 23; 24: 24; 25: 25; 26: 26; 27: 27; 28: 28
pins: 1, 2, 3, 4, 5, 6, 7, 8, 9, 10, 11, 12, 13, 14, 15, 16, 17, 18, 19, 20, 21, 22, 23, 24, 25, 26, 27, 28
text: Конт; Цепь